# Altium integrated library SparkFun-Retired.Library.IntLib: 390 symbols (part 3 of 5)
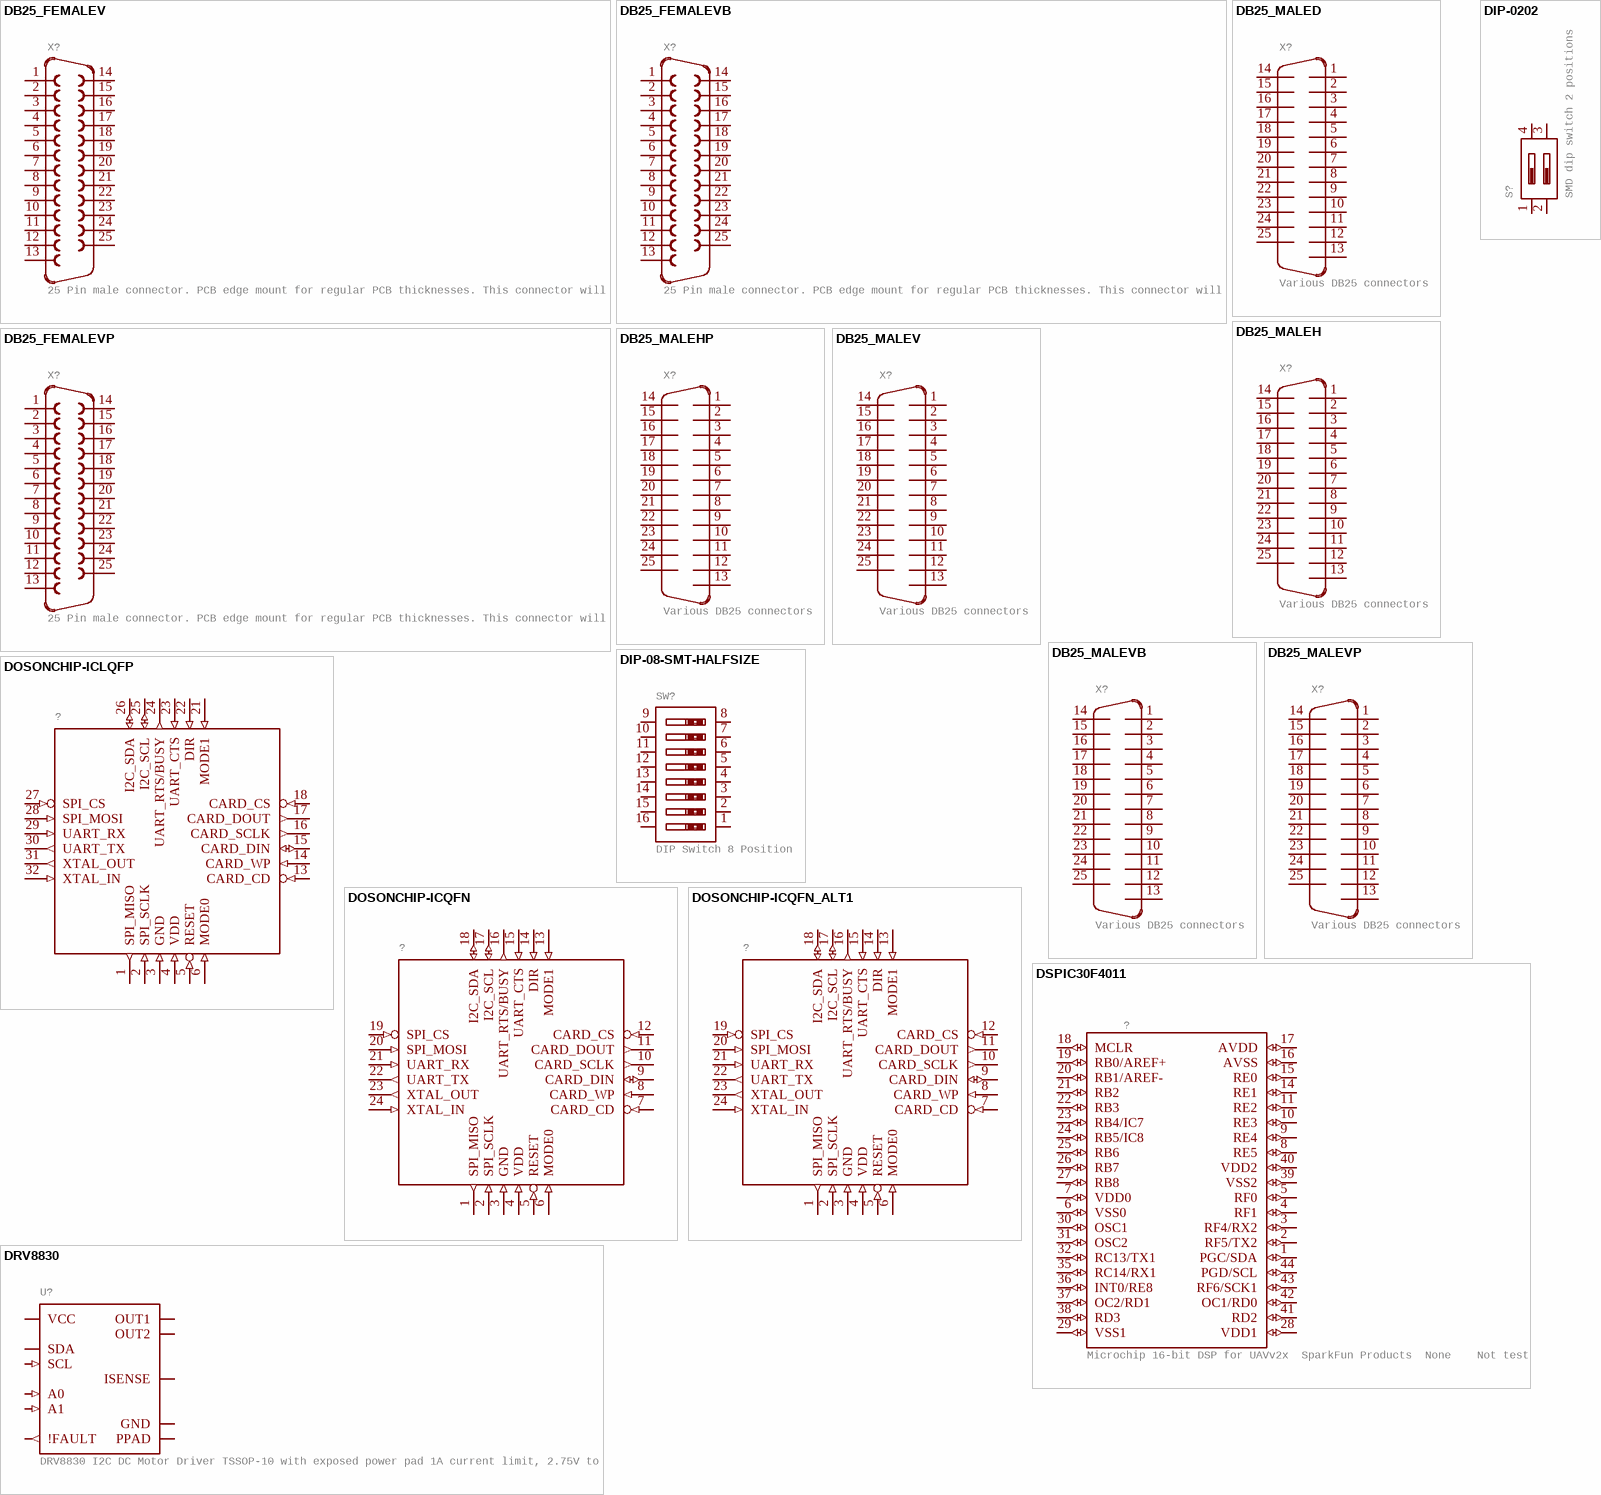
[diagram p28: symbols DB25_FEMALEV to DSPIC30F4011]

## DOSONCHIP-ICQFN_ALT1
designator ?, comment DOSonCHIP ICThis is the tested schematic and footprint for the DOSonCHIP FAT16 FAT32 IC. Spark Fun Electronics SKU : COM-07956. QFN package also tested/proven.  (value not drawn)
GateName_1: G$1; SymbolName_1: DOSONCHIP-IC; DeviceName: QFN_ALT1; LibraryName: SparkFun-Retired; DeviceSetName: DOSONCHIP-IC; Package: QFN-24_ALT1.PAC
footprint QFN-24_ALT1.PAC
pins: 1 SPI_MISO (out), 2 SPI_SCLK (in), 3 GND (in), 4 VDD (in), 5 RESET (in), 6 MODE0 (in), 7 CARD_CD (in), 8 CARD_WP (in), 9 CARD_DIN (io), 10 CARD_SCLK (out), 11 CARD_DOUT (out), 12 CARD_CS (in), 13 MODE1 (in), 14 DIR (in), 15 UART_CTS (in), 16 UART_RTS/BUSY (out), 17 I2C_SCL (io), 18 I2C_SDA (io), 19 SPI_CS (in), 20 SPI_MOSI (in), 21 UART_RX (in), 22 UART_TX (out), 23 XTAL_OUT (out), 24 XTAL_IN (in)

## DRV8830
designator U?, comment DRV8830 I2C DC Motor Driver TSSOP-10 with exposed power pad 1A current limit, 2.75V to 6.8V
GateName_1: G$1; PROD_ID: IC-11646; SymbolName_1: DRV8830; LibraryName: SparkFun-Retired; DeviceSetName: DRV8830; Package: MSOP-10-GNDPAD
footprint MSOP-10-GNDPAD
pins: 1 OUT2 (power), 2 ISENSE (io), 3 OUT1 (power), 4 VCC (power), 5 GND (power), 6 !FAULT (out), 7 A0 (in), 8 A1 (in), 9 SDA (io), 10 SCL (in), GND PPAD (power)

## DSPIC30F4011
designator ?, comment Microchip 16-bit DSP for UAVv2x  SparkFun Products  None    Not tested
GateName_1: G$1; SymbolName_1: DSPIC30F4011; LibraryName: SparkFun-Retired; DeviceSetName: DSPIC30F4011; Package: TQFP44_MCU
footprint TQFP44_MCU
pins: 1 PGC/SDA (io), 2 RF5/TX2 (io), 3 RF4/RX2 (io), 4 RF1 (io), 5 RF0 (io), 6 VSS0 (io), 7 VDD0 (io), 8 RE5 (io), 9 RE4 (io), 10 RE3 (io), 11 RE2 (io), 14 RE1 (io), 15 RE0 (io), 16 AVSS (io), 17 AVDD (io), 18 MCLR (io), 19 RB0/AREF+ (io), 20 RB1/AREF- (io), 21 RB2 (io), 22 RB3 (io), 23 RB4/IC7 (io), 24 RB5/IC8 (io), 25 RB6 (io), 26 RB7 (io), 27 RB8 (io), 28 VDD1 (io), 29 VSS1 (io), 30 OSC1 (io), 31 OSC2 (io), 32 RC13/TX1 (io), 35 RC14/RX1 (io), 36 INT0/RE8 (io), 37 OC2/RD1 (io), 38 RD3 (io), 39 VSS2 (io), 40 VDD2 (io), 41 RD2 (io), 42 OC1/RD0 (io), 43 RF6/SCK1 (io), 44 PGD/SCL (io)

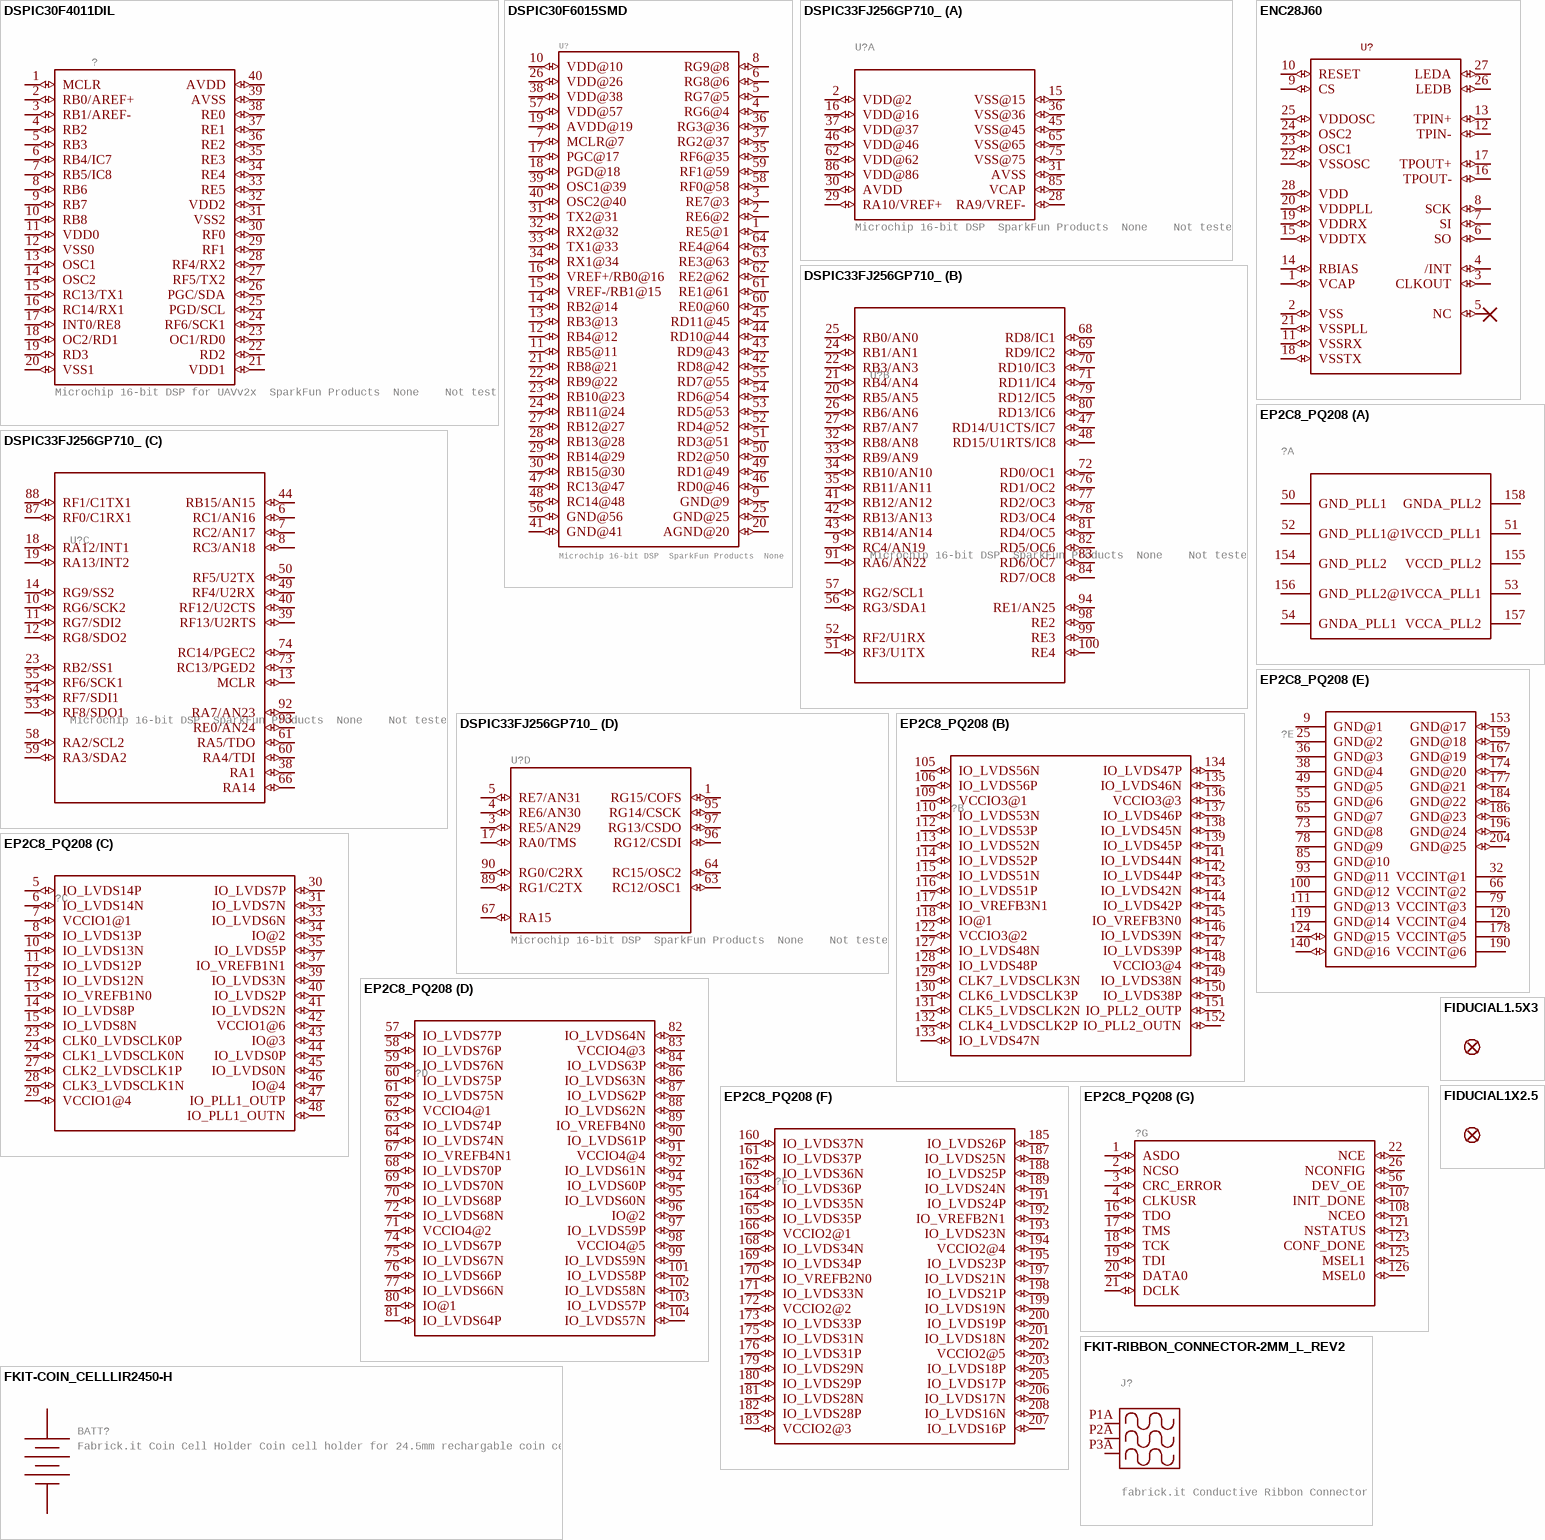
[diagram p10: symbols DSPIC30F4011DIL to FKIT-RIBBON_CONNECTOR-2MM_L_REV2]

## DSPIC30F4011DIL
designator ?, comment Microchip 16-bit DSP for UAVv2x  SparkFun Products  None    Not tested
GateName_1: G$1; SymbolName_1: DSPIC30F4011; DeviceName: DIL; LibraryName: SparkFun-Retired; DeviceSetName: DSPIC30F4011; Package: DIP40_MCU
footprint DIP40_MCU
pins: 1 MCLR (io), 2 RB0/AREF+ (io), 3 RB1/AREF- (io), 4 RB2 (io), 5 RB3 (io), 6 RB4/IC7 (io), 7 RB5/IC8 (io), 8 RB6 (io), 9 RB7 (io), 10 RB8 (io), 11 VDD0 (io), 12 VSS0 (io), 13 OSC1 (io), 14 OSC2 (io), 15 RC13/TX1 (io), 16 RC14/RX1 (io), 17 INT0/RE8 (io), 18 OC2/RD1 (io), 19 RD3 (io), 20 VSS1 (io), 21 VDD1 (io), 22 RD2 (io), 23 OC1/RD0 (io), 24 RF6/SCK1 (io), 25 PGD/SCL (io), 26 PGC/SDA (io), 27 RF5/TX2 (io), 28 RF4/RX2 (io), 29 RF1 (io), 30 RF0 (io), 31 VSS2 (io), 32 VDD2 (io), 33 RE5 (io), 34 RE4 (io), 35 RE3 (io), 36 RE2 (io), 37 RE1 (io), 38 RE0 (io), 39 AVSS (io), 40 AVDD (io)

## DSPIC30F6015SMD
designator U?, comment Microchip 16-bit DSP  SparkFun Products  None
GateName_1: G$1; SymbolName_1: DSPIC30F6015; DeviceName: SMD; LibraryName: SparkFun-Retired; DeviceSetName: DSPIC30F6015; Package: TQFP64_MCU
footprint TQFP64_MCU
pins: 1 RE5@1 (io), 2 RE6@2 (io), 3 RE7@3 (io), 4 RG6@4 (io), 5 RG7@5 (io), 6 RG8@6 (io), 7 MCLR@7 (io), 8 RG9@8 (io), 9 GND@9 (io), 10 VDD@10 (io), 11 RB5@11 (io), 12 RB4@12 (io), 13 RB3@13 (io), 14 RB2@14 (io), 15 VREF-/RB1@15 (io), 16 VREF+/RB0@16 (io), 17 PGC@17 (io), 18 PGD@18 (io), 19 AVDD@19 (io), 20 AGND@20 (io), 21 RB8@21 (io), 22 RB9@22 (io), 23 RB10@23 (io), 24 RB11@24 (io), 25 GND@25 (io), 26 VDD@26 (io), 27 RB12@27 (io), 28 RB13@28 (io), 29 RB14@29 (io), 30 RB15@30 (io), 31 TX2@31 (io), 32 RX2@32 (io), 33 TX1@33 (io), 34 RX1@34 (io), 35 RF6@35 (io), 36 RG3@36 (io), 37 RG2@37 (io), 38 VDD@38 (io), 39 OSC1@39 (io), 40 OSC2@40 (io), 41 GND@41 (io), 42 RD8@42 (io), 43 RD9@43 (io), 44 RD10@44 (io), 45 RD11@45 (io), 46 RD0@46 (io), 47 RC13@47 (io), 48 RC14@48 (io), 49 RD1@49 (io), 50 RD2@50 (io), 51 RD3@51 (io), 52 RD4@52 (io), 53 RD5@53 (io), 54 RD6@54 (io), 55 RD7@55 (io), 56 GND@56 (io), 57 VDD@57 (io), 58 RF0@58 (io), 59 RF1@59 (io), 60 RE0@60 (io), 61 RE1@61 (io), 62 RE2@62 (io), 63 RE3@63 (io), 64 RE4@64 (io)

## DSPIC33FJ256GP710_
designator U?, comment Microchip 16-bit DSP  SparkFun Products  None    Not tested
GateName_1: G1; SymbolName_1: DSPIC33FJ256GP710_POWER; GateName_2: G2; SymbolName_2: DSPIC33FJ256GP710_CONTROL; GateName_3: G3; SymbolName_3: DSPIC33FJ256GP710_EXTERNAL; GateName_4: G4; SymbolName_4: DSPIC33FJ256GP710_EXTRA; DeviceName: _; DeviceSetName: DSPIC33FJ256GP710; LibraryName: SparkFun-Retired; Package: TQFP-100-12X12MM_MCU
footprint TQFP-100-12X12MM_MCU
part A pins: 2 VDD@2 (io), 15 VSS@15 (io), 16 VDD@16 (io), 28 RA9/VREF- (io), 29 RA10/VREF+ (io), 30 AVDD (io), 31 AVSS (io), 36 VSS@36 (io), 37 VDD@37 (io), 45 VSS@45 (io), 46 VDD@46 (io), 62 VDD@62 (io), 65 VSS@65 (io), 75 VSS@75 (io), 85 VCAP (io), 86 VDD@86 (io)
part B pins: 9 RC4/AN19 (io), 20 RB5/AN5 (io), 21 RB4/AN4 (io), 22 RB3/AN3 (io), 24 RB1/AN1 (io), 25 RB0/AN0 (io), 26 RB6/AN6 (io), 27 RB7/AN7 (io), 32 RB8/AN8 (io), 33 RB9/AN9 (io), 34 RB10/AN10 (io), 35 RB11/AN11 (io), 41 RB12/AN12 (io), 42 RB13/AN13 (io), 43 RB14/AN14 (io), 47 RD14/U1CTS/IC7 (io), 48 RD15/U1RTS/IC8 (io), 51 RF3/U1TX (io), 52 RF2/U1RX (io), 56 RG3/SDA1 (io), 57 RG2/SCL1 (io), 68 RD8/IC1 (io), 69 RD9/IC2 (io), 70 RD10/IC3 (io), 71 RD11/IC4 (io), 72 RD0/OC1 (io), 76 RD1/OC2 (io), 77 RD2/OC3 (io), 78 RD3/OC4 (io), 79 RD12/IC5 (io), 80 RD13/IC6 (io), 81 RD4/OC5 (io), 82 RD5/OC6 (io), 83 RD6/OC7 (io), 84 RD7/OC8 (io), 91 RA6/AN22 (io), 94 RE1/AN25 (io), 98 RE2 (io), 99 RE3 (io), 100 RE4 (io)
part C pins: 6 RC1/AN16 (io), 7 RC2/AN17 (io), 8 RC3/AN18 (io), 10 RG6/SCK2 (io), 11 RG7/SDI2 (io), 12 RG8/SDO2 (io), 13 MCLR (io), 14 RG9/SS2 (io), 18 RA12/INT1 (io), 19 RA13/INT2 (io), 23 RB2/SS1 (io), 38 RA1 (io), 39 RF13/U2RTS (io), 40 RF12/U2CTS (io), 44 RB15/AN15 (io), 49 RF4/U2RX (io), 50 RF5/U2TX (io), 53 RF8/SDO1 (io), 54 RF7/SDI1 (io), 55 RF6/SCK1 (io), 58 RA2/SCL2 (io), 59 RA3/SDA2 (io), 60 RA4/TDI (io), 61 RA5/TDO (io), 66 RA14 (io), 73 RC13/PGED2 (io), 74 RC14/PGEC2 (io), 87 RF0/C1RX1 (io), 88 RF1/C1TX1 (io), 92 RA7/AN23 (io), 93 RE0/AN24 (io)
part D pins: 1 RG15/COFS (io), 3 RE5/AN29 (io), 4 RE6/AN30 (io), 5 RE7/AN31 (io), 17 RA0/TMS (io), 63 RC12/OSC1 (io), 64 RC15/OSC2 (io), 67 RA15 (io), 89 RG1/C2TX (io), 90 RG0/C2RX (io), 95 RG14/CSCK (io), 96 RG12/CSDI (io), 97 RG13/CSDO (io)

## ENC28J60
designator U?, comment Microchip SPI 10Base ethernet IC   Prototype by abe, 2010.  Dead?  (value not drawn)
GateName_1: G$1; SymbolName_1: ENC28J60; PROD_ID: IC-09541; LibraryName: SparkFun-Retired; DeviceSetName: ENC28J60; Package: SSOP28DB
footprint SSOP28DB
pins: 1 VCAP (io), 2 VSS (io), 3 CLKOUT (io), 4 /INT (io), 5 NC (io), 6 SO (io), 7 SI (io), 8 SCK (io), 9 CS (io), 10 RESET (io), 11 VSSRX (io), 12 TPIN- (io), 13 TPIN+ (io), 14 RBIAS (io), 15 VDDTX (io), 16 TPOUT- (io), 17 TPOUT+ (io), 18 VSSTX (io), 19 VDDRX (io), 20 VDDPLL (io), 21 VSSPLL (io), 22 VSSOSC (io), 23 OSC1 (io), 24 OSC2 (io), 25 VDDOSC (io), 26 LEDB (io), 27 LEDA (io), 28 VDD (io)

## EP2C8_PQ208
designator ?, comment Altera Cyclone2 FPGA, PQFP-208  Not in catalog  (value not drawn)
GateName_1: G$2; SymbolName_1: EP2C20_PQ208_PLL; GateName_2: G$6; SymbolName_2: EP2C20_PQ208_B3; GateName_3: G$4; SymbolName_3: EP2C20_PQ208_B1; GateName_4: G$3; SymbolName_4: EP2C20_PQ208_B4; GateName_5: G$7; SymbolName_5: EP2C20_PQ208_POWER; GateName_6: G$5; SymbolName_6: EP2C20_PQ208_B2; GateName_7: G$1; SymbolName_7: EP2C20_PQ208_CONFIG; DeviceSetName: EP2C8_PQ208; LibraryName: SparkFun-Retired; Package: PQFP208
footprint PQFP208
part A pins: 50 GND_PLL1 (power), 51 VCCD_PLL1 (power), 52 GND_PLL1@1 (power), 53 VCCA_PLL1 (power), 54 GNDA_PLL1 (power), 154 GND_PLL2 (power), 155 VCCD_PLL2 (power), 156 GND_PLL2@1 (power), 157 VCCA_PLL2 (power), 158 GNDA_PLL2 (power)
part B pins: 105 IO_LVDS56N (io), 106 IO_LVDS56P (io), 109 VCCIO3@1 (io), 110 IO_LVDS53N (io), 112 IO_LVDS53P (io), 113 IO_LVDS52N (io), 114 IO_LVDS52P (io), 115 IO_LVDS51N (io), 116 IO_LVDS51P (io), 117 IO_VREFB3N1 (io), 118 IO@1 (io), 122 VCCIO3@2 (io), 127 IO_LVDS48N (io), 128 IO_LVDS48P (io), 129 CLK7_LVDSCLK3N (io), 130 CLK6_LVDSCLK3P (io), 131 CLK5_LVDSCLK2N (io), 132 CLK4_LVDSCLK2P (io), 133 IO_LVDS47N (io), 134 IO_LVDS47P (io), 135 IO_LVDS46N (io), 136 VCCIO3@3 (io), 137 IO_LVDS46P (io), 138 IO_LVDS45N (io), 139 IO_LVDS45P (io), 141 IO_LVDS44N (io), 142 IO_LVDS44P (io), 143 IO_LVDS42N (io), 144 IO_LVDS42P (io), 145 IO_VREFB3N0 (io), 146 IO_LVDS39N (io), 147 IO_LVDS39P (io), 148 VCCIO3@4 (io), 149 IO_LVDS38N (io), 150 IO_LVDS38P (io), 151 IO_PLL2_OUTP (io), 152 IO_PLL2_OUTN (io)
part C pins: 5 IO_LVDS14P (io), 6 IO_LVDS14N (io), 7 VCCIO1@1 (io), 8 IO_LVDS13P (io), 10 IO_LVDS13N (io), 11 IO_LVDS12P (io), 12 IO_LVDS12N (io), 13 IO_VREFB1N0 (io), 14 IO_LVDS8P (io), 15 IO_LVDS8N (io), 23 CLK0_LVDSCLK0P (io), 24 CLK1_LVDSCLK0N (io), 27 CLK2_LVDSCLK1P (io), 28 CLK3_LVDSCLK1N (io), 29 VCCIO1@4 (io), 30 IO_LVDS7P (io), 31 IO_LVDS7N (io), 33 IO_LVDS6N (io), 34 IO@2 (io), 35 IO_LVDS5P (io), 37 IO_VREFB1N1 (io), 39 IO_LVDS3N (io), 40 IO_LVDS2P (io), 41 IO_LVDS2N (io), 42 VCCIO1@6 (io), 43 IO@3 (io), 44 IO_LVDS0P (io), 45 IO_LVDS0N (io), 46 IO@4 (io), 47 IO_PLL1_OUTP (io), 48 IO_PLL1_OUTN (io)
part D pins: 57 IO_LVDS77P (io), 58 IO_LVDS76P (io), 59 IO_LVDS76N (io), 60 IO_LVDS75P (io), 61 IO_LVDS75N (io), 62 VCCIO4@1 (io), 63 IO_LVDS74P (io), 64 IO_LVDS74N (io), 67 IO_VREFB4N1 (io), 68 IO_LVDS70P (io), 69 IO_LVDS70N (io), 70 IO_LVDS68P (io), 71 VCCIO4@2 (io), 72 IO_LVDS68N (io), 74 IO_LVDS67P (io), 75 IO_LVDS67N (io), 76 IO_LVDS66P (io), 77 IO_LVDS66N (io), 80 IO@1 (io), 81 IO_LVDS64P (io), 82 IO_LVDS64N (io), 83 VCCIO4@3 (io), 84 IO_LVDS63P (io), 86 IO_LVDS63N (io), 87 IO_LVDS62P (io), 88 IO_LVDS62N (io), 89 IO_VREFB4N0 (io), 90 IO_LVDS61P (io), 91 VCCIO4@4 (io), 92 IO_LVDS61N (io), 94 IO_LVDS60P (io), 95 IO_LVDS60N (io), 96 IO@2 (io), 97 IO_LVDS59P (io), 98 VCCIO4@5 (io), 99 IO_LVDS59N (io), 101 IO_LVDS58P (io), 102 IO_LVDS58N (io), 103 IO_LVDS57P (io), 104 IO_LVDS57N (io)
part E pins: 9 GND@1 (power), 25 GND@2 (power), 32 VCCINT@1 (power), 36 GND@3 (power), 38 GND@4 (power), 49 GND@5 (power), 55 GND@6 (power), 65 GND@7 (power), 66 VCCINT@2 (power), 73 GND@8 (power), 78 GND@9 (power), 79 VCCINT@3 (power), 85 GND@10 (power), 93 GND@11 (power), 100 GND@12 (power), 111 GND@13 (power), 119 GND@14 (power), 120 VCCINT@4 (power), 124 GND@15 (io), 140 GND@16 (io), 153 GND@17 (io), 159 GND@18 (io), 167 GND@19 (io), 174 GND@20 (io), 177 GND@21 (io), 178 VCCINT@5 (power), 184 GND@22 (io), 186 GND@23 (io), 190 VCCINT@6 (power), 196 GND@24 (io), 204 GND@25 (io)
part F pins: 160 IO_LVDS37N (io), 161 IO_LVDS37P (io), 162 IO_LVDS36N (io), 163 IO_LVDS36P (io), 164 IO_LVDS35N (io), 165 IO_LVDS35P (io), 166 VCCIO2@1 (io), 168 IO_LVDS34N (io), 169 IO_LVDS34P (io), 170 IO_VREFB2N0 (io), 171 IO_LVDS33N (io), 172 VCCIO2@2 (io), 173 IO_LVDS33P (io), 175 IO_LVDS31N (io), 176 IO_LVDS31P (io), 179 IO_LVDS29N (io), 180 IO_LVDS29P (io), 181 IO_LVDS28N (io), 182 IO_LVDS28P (io), 183 VCCIO2@3 (io), 185 IO_LVDS26P (io), 187 IO_LVDS25N (io), 188 IO_LVDS25P (io), 189 IO_LVDS24N (io), 191 IO_LVDS24P (io), 192 IO_VREFB2N1 (io), 193 IO_LVDS23N (io), 194 VCCIO2@4 (io), 195 IO_LVDS23P (io), 197 IO_LVDS21N (io), 198 IO_LVDS21P (io), 199 IO_LVDS19N (io), 200 IO_LVDS19P (io), 201 IO_LVDS18N (io), 202 VCCIO2@5 (io), 203 IO_LVDS18P (io), 205 IO_LVDS17P (io), 206 IO_LVDS17N (io), 207 IO_LVDS16P (io), 208 IO_LVDS16N (io)
part G pins: 1 ASDO (io), 2 NCSO (io), 3 CRC_ERROR (io), 4 CLKUSR (io), 16 TDO (io), 17 TMS (io), 18 TCK (io), 19 TDI (io), 20 DATA0 (io), 21 DCLK (io), 22 NCE (io), 26 NCONFIG (io), 56 DEV_OE (io), 107 INIT_DONE (io), 108 NCEO (io), 121 NSTATUS (io), 123 CONF_DONE (io), 125 MSEL1 (io), 126 MSEL0 (io)

## FIDUCIAL1.5X3
designator FID?, comment Fiducial Alignment PointsVarious fiducial points for machine vision alignment.  (value not drawn)
GateName_1: G$1; DeviceName: 1.5X3; SymbolName_1: FIDUCIAL; LibraryName: SparkFun-Retired; DeviceSetName: FIDUCIAL; Package: FIDUCIAL-1.5X3
footprint FIDUCIAL-1.5X3

## FIDUCIAL1X2.5
designator FID?, comment Fiducial Alignment PointsVarious fiducial points for machine vision alignment.  (value not drawn)
GateName_1: G$1; DeviceName: 1X2.5; SymbolName_1: FIDUCIAL; LibraryName: SparkFun-Retired; DeviceSetName: FIDUCIAL; Package: FIDUCIAL-1X2.5
footprint FIDUCIAL-1X2.5

## FKIT-COIN_CELLLIR2450-H
designator BATT?, comment Fabrick.it Coin Cell Holder Coin cell holder for 24.5mm rechargable coin cell
GateName_1: G$1; SymbolName_1: FKIT-BATTERY; DeviceName: LIR2450-H; DeviceSetName: FKIT-COIN_CELL; LibraryName: SparkFun-Retired; Package: FKIT-LIR2450-H
footprint FKIT-LIR2450-H
pins: NEG (io), POS (io)

## FKIT-LOGO-MEDIUM
designator LOGO?, comment Fabrick.it Logos  (value not drawn)
GateName_1: G$1; SymbolName_1: FKIT-LOGO; DeviceName: -MEDIUM; LibraryName: SparkFun-Retired; DeviceSetName: FKIT-LOGO; Package: FKIT-LOGO_MEDIUM
footprint FKIT-LOGO_MEDIUM

## FKIT-LOGO-SMALL
designator LOGO?, comment Fabrick.it Logos  (value not drawn)
GateName_1: G$1; SymbolName_1: FKIT-LOGO; DeviceName: -SMALL; LibraryName: SparkFun-Retired; DeviceSetName: FKIT-LOGO; Package: FKIT-LOGO_SMALL
footprint FKIT-LOGO_SMALL

## FKIT-LOGO-VERY_SMALL
designator LOGO?, comment Fabrick.it Logos  (value not drawn)
GateName_1: G$1; SymbolName_1: FKIT-LOGO; DeviceName: -VERY_SMALL; LibraryName: SparkFun-Retired; DeviceSetName: FKIT-LOGO; Package: FKIT-LOGO_VERY_SMALL
footprint FKIT-LOGO_VERY_SMALL

## FKIT-LOGO-VERY_SMALL_VECTOR
designator LOGO?, comment Fabrick.it Logos  (value not drawn)
GateName_1: G$1; SymbolName_1: FKIT-LOGO; DeviceName: -VERY_SMALL_VECTOR; LibraryName: SparkFun-Retired; DeviceSetName: FKIT-LOGO; Package: FKIT-LOGO_VERY_SMALL
footprint FKIT-LOGO_VERY_SMALL

## FKIT-LOGOTYPE-MEDIUM
designator LOGO?, comment Fabrick.it Logotype  (value not drawn)
GateName_1: G$1; SymbolName_1: FKIT-LOGOTYPE; DeviceName: -MEDIUM; LibraryName: SparkFun-Retired; DeviceSetName: FKIT-LOGOTYPE; Package: FKIT-LOGOTYPE_MEDIUM
footprint FKIT-LOGOTYPE_MEDIUM

## FKIT-LOGOTYPE-SMALL
designator LOGO?, comment Fabrick.it Logotype  (value not drawn)
GateName_1: G$1; SymbolName_1: FKIT-LOGOTYPE; DeviceName: -SMALL; LibraryName: SparkFun-Retired; DeviceSetName: FKIT-LOGOTYPE; Package: FKIT-LOGOTYPE_SMALL
footprint FKIT-LOGOTYPE_SMALL

## FKIT-LOGOTYPE-VERY_SMALL
designator LOGO?, comment Fabrick.it Logotype  (value not drawn)
GateName_1: G$1; SymbolName_1: FKIT-LOGOTYPE; DeviceName: -VERY_SMALL; LibraryName: SparkFun-Retired; DeviceSetName: FKIT-LOGOTYPE; Package: FKIT-LOGOTYPE_VERY_SMALL
footprint FKIT-LOGOTYPE_VERY_SMALL

## FKIT-RIBBON_CONNECTOR-2MM_L_REV2
designator J?, comment fabrick.it Conductive Ribbon Connector
GateName_1: G$1; SymbolName_1: FKIT-CONNECTOR_COND_03; DeviceName: -2MM_L_REV2; DeviceSetName: FKIT-RIBBON_CONNECTOR; LibraryName: SparkFun-Retired; Package: FKIT-RIBBON_CONNECTOR_03_2MM_L
footprint FKIT-RIBBON_CONNECTOR_03_2MM_L
pins: P1A P$1 (io), P2A P$2 (io), P3A P$3 (io)

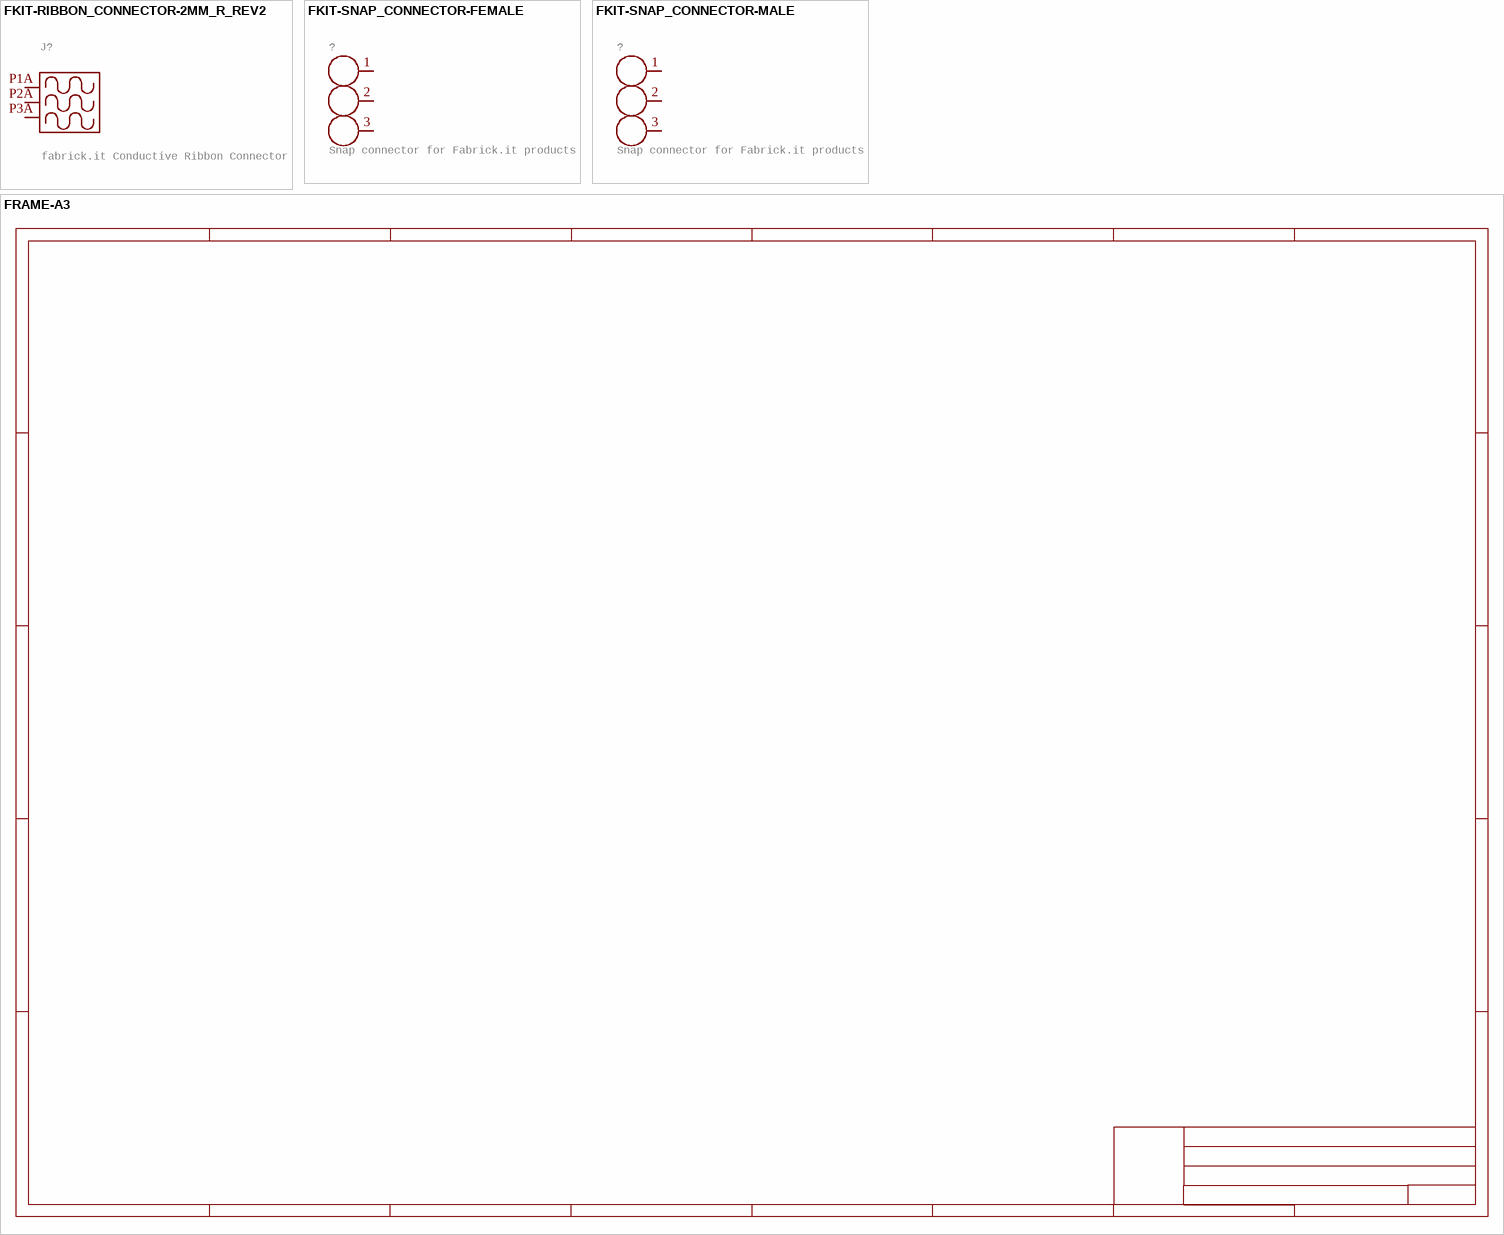
[diagram p11: symbols FKIT-RIBBON_CONNECTOR-2MM_R_REV2 to FRAME-A3]

## FKIT-RIBBON_CONNECTOR-2MM_R_REV2
designator J?, comment fabrick.it Conductive Ribbon Connector
GateName_1: G$1; SymbolName_1: FKIT-CONNECTOR_COND_03; DeviceName: -2MM_R_REV2; DeviceSetName: FKIT-RIBBON_CONNECTOR; LibraryName: SparkFun-Retired; Package: FKIT-RIBBON_CONNECTOR_03_2MM_R
footprint FKIT-RIBBON_CONNECTOR_03_2MM_R
pins: P1A P$1 (io), P2A P$2 (io), P3A P$3 (io)

## FKIT-SNAP_CONNECTOR-FEMALE
designator ?, comment Snap connector for Fabrick.it products
GateName_1: G$1; SymbolName_1: FKIT-SNAP_CONNECTOR; DeviceName: -FEMALE; LibraryName: SparkFun-Retired; DeviceSetName: FKIT-SNAP_CONNECTOR; Package: FKIT-SNAP_FEMALE
footprint FKIT-SNAP_FEMALE
pins: 1 (io), 2 (io), 3 (io)

## FKIT-SNAP_CONNECTOR-MALE
designator ?, comment Snap connector for Fabrick.it products
GateName_1: G$1; SymbolName_1: FKIT-SNAP_CONNECTOR; DeviceName: -MALE; LibraryName: SparkFun-Retired; DeviceSetName: FKIT-SNAP_CONNECTOR; Package: FKIT-SNAP_MALE
footprint FKIT-SNAP_MALE
pins: 1 (io), 2 (io), 3 (io)

## FRAME-A3
designator FRAME?, comment Schematic Frame   A3 Larger Frame-RETIRED Please use FRAME-LEDGER/FRAME-LETTER for schematics now.  (value not drawn)
GateName_1: G$1; SymbolName_1: A3L-LOC; DeviceSetName: FRAME-A3; LibraryName: SparkFun-Retired

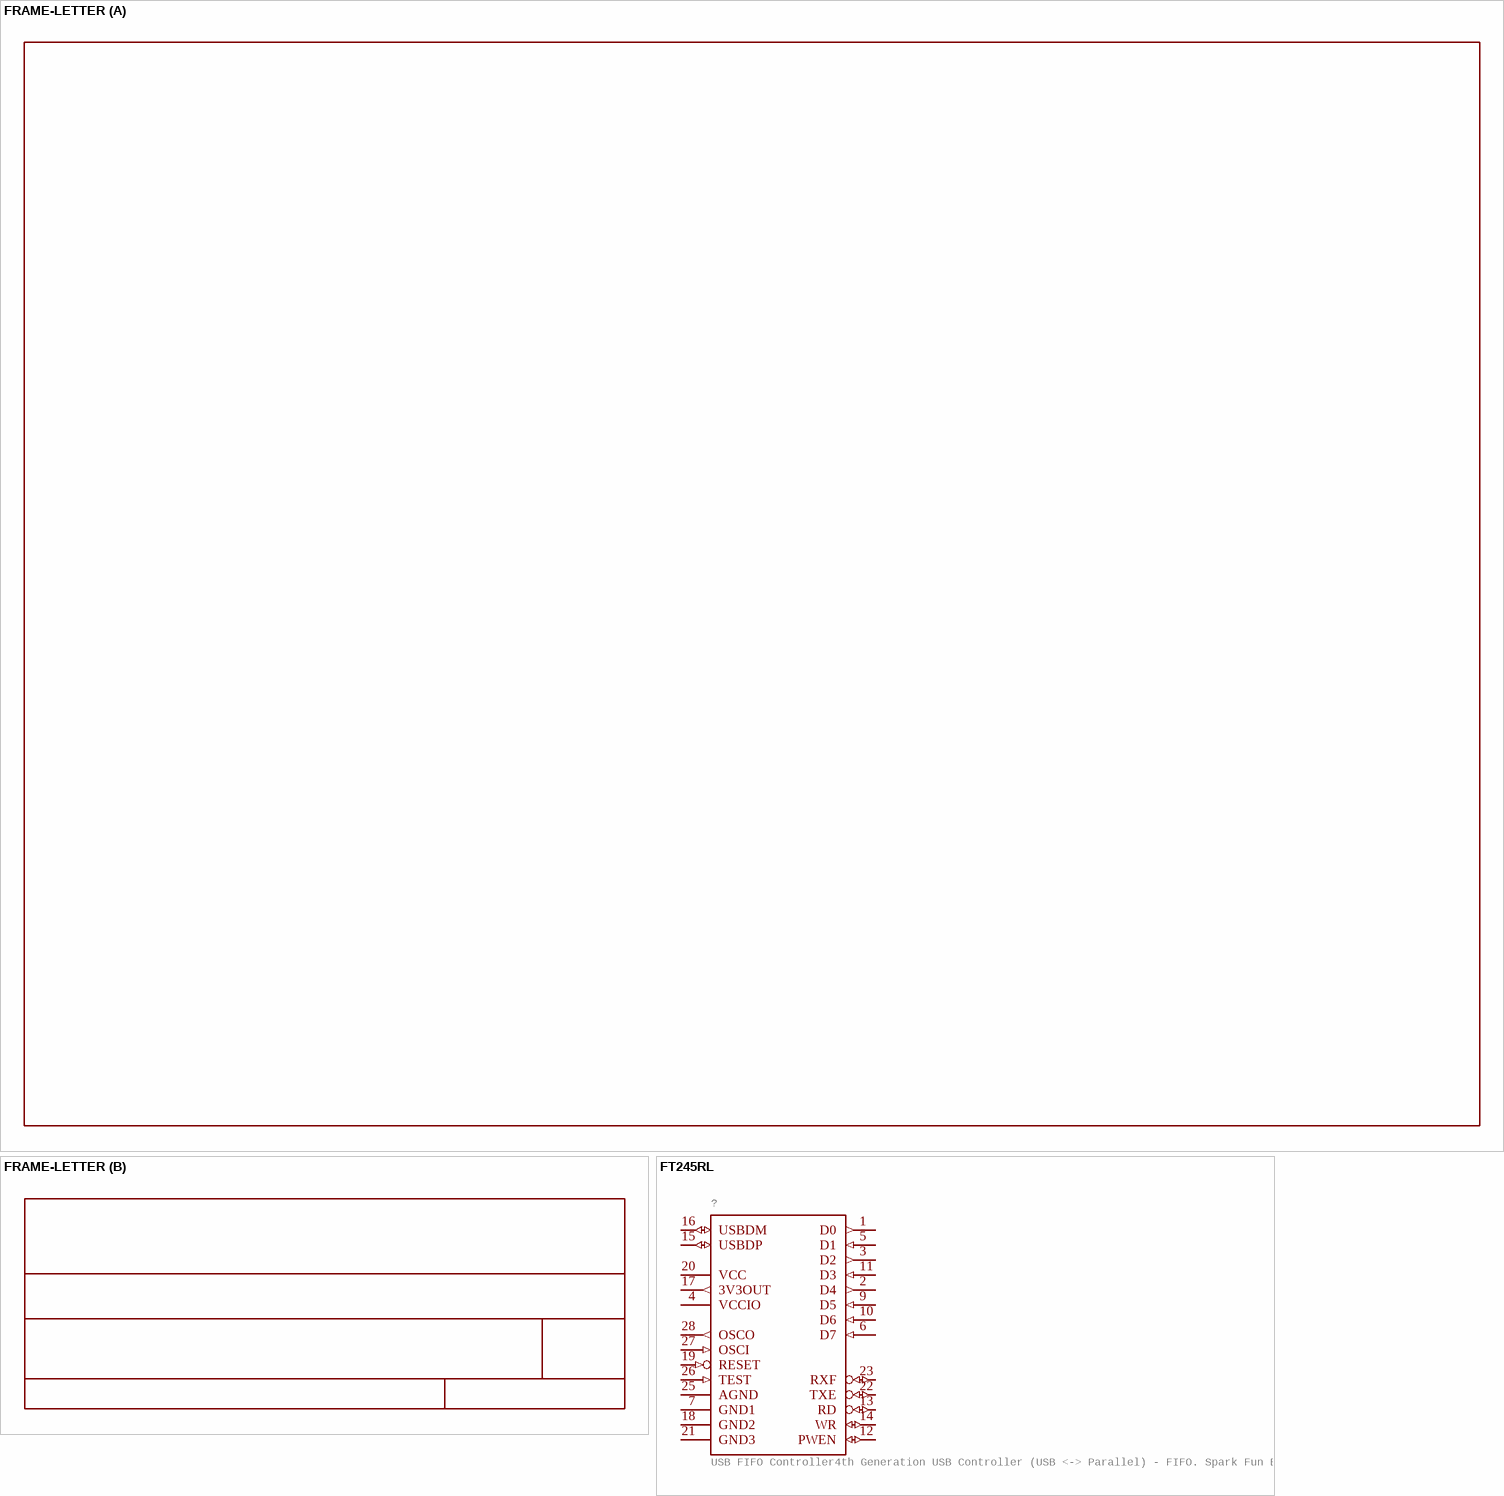
[diagram p12: symbols FRAME-LETTER to FT245RL]

## FRAME-LETTER
designator FRAME?, comment Schematic Frame   Standard 8.5x11 US Letter frame  (value not drawn)
GateName_1: G$1; SymbolName_1: LETTER_L; GateName_2: G$2; SymbolName_2: DOCFIELD; DeviceSetName: FRAME-LETTER; LibraryName: SparkFun-Retired; Package: CREATIVE_COMMONS
footprint CREATIVE_COMMONS

## FT245RL
designator ?, comment USB FIFO Controller4th Generation USB Controller (USB <-> Parallel) - FIFO. Spark Fun Electronics SKU : COM-00787   TODO: Move this to retired
GateName_1: G$1; SymbolName_1: FT245R; DeviceSetName: FT245RL; LibraryName: SparkFun-Retired; Package: SSOP28DB; PROD_ID: COM-00787
footprint SSOP28DB
pins: 1 D0 (out), 2 D4 (out), 3 D2 (out), 4 VCCIO (power), 5 D1 (in), 6 D7 (in), 7 GND1 (power), 9 D5 (in), 10 D6 (in), 11 D3 (in), 12 PWEN (io), 13 RD (io), 14 WR (io), 15 USBDP (io), 16 USBDM (io), 17 3V3OUT (out), 18 GND2 (power), 19 RESET (in), 20 VCC (power), 21 GND3 (power), 22 TXE (io), 23 RXF (io), 25 AGND (power), 26 TEST (in), 27 OSCI (in), 28 OSCO (out)

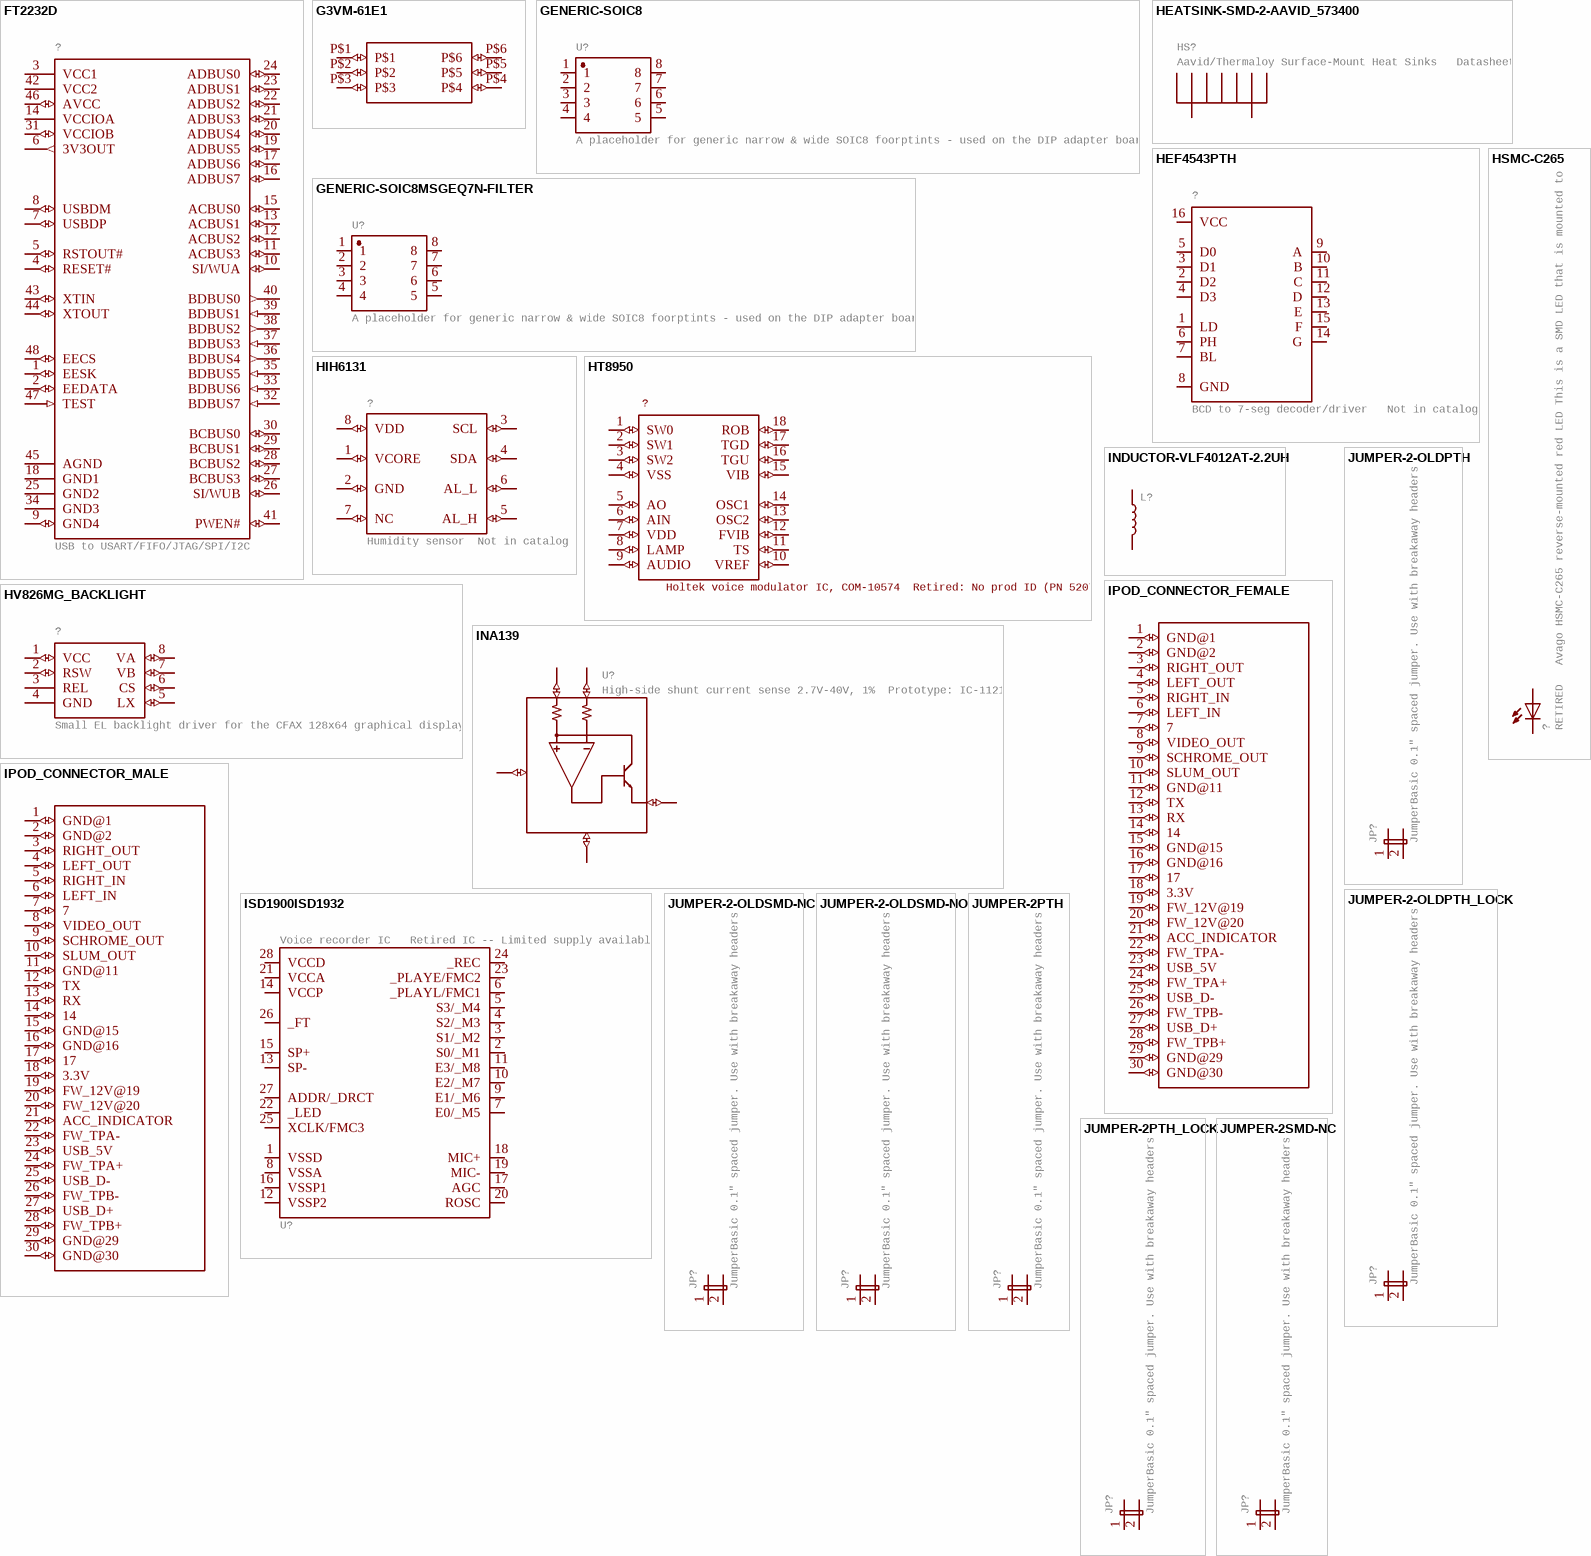
[diagram p13: symbols FT2232D to JUMPER-2SMD-NC]

## FT2232D
designator ?, comment USB to USART/FIFO/JTAG/SPI/I2C
GateName_1: G$1; SymbolName_1: FT2232D; LibraryName: SparkFun-Retired; DeviceSetName: FT2232D; Package: LQFP-48
footprint LQFP-48
pins: 1 EESK (io), 2 EEDATA (io), 3 VCC1 (power), 4 RESET# (io), 5 RSTOUT# (io), 6 3V3OUT (out), 7 USBDP (io), 8 USBDM (io), 9 GND4 (io), 10 SI/WUA (io), 11 ACBUS3 (io), 12 ACBUS2 (io), 13 ACBUS1 (io), 14 VCCIOA (power), 15 ACBUS0 (io), 16 ADBUS7 (io), 17 ADBUS6 (io), 18 GND1 (power), 19 ADBUS5 (io), 20 ADBUS4 (io), 21 ADBUS3 (io), 22 ADBUS2 (io), 23 ADBUS1 (io), 24 ADBUS0 (io), 25 GND2 (power), 26 SI/WUB (io), 27 BCBUS3 (io), 28 BCBUS2 (io), 29 BCBUS1 (io), 30 BCBUS0 (io), 31 VCCIOB (io), 32 BDBUS7 (in), 33 BDBUS6 (in), 34 GND3 (power), 35 BDBUS5 (in), 36 BDBUS4 (out), 37 BDBUS3 (in), 38 BDBUS2 (out), 39 BDBUS1 (in), 40 BDBUS0 (out), 41 PWEN# (io), 42 VCC2 (power), 43 XTIN (io), 44 XTOUT (io), 45 AGND (power), 46 AVCC (io), 47 TEST (in), 48 EECS (io)

## G3VM-61E1
designator ?, comment Omron NO solid state relay  (value not drawn)
GateName_1: G$1; SymbolName_1: G3VM-61E1; PROD_ID: TRANS-08720; LibraryName: SparkFun-Retired; DeviceSetName: G3VM-61E1; Package: G3VM-61E1
footprint G3VM-61E1
pins: P$1 (io), P$2 (io), P$3 (io), P$4 (io), P$5 (io), P$6 (io)

## GENERIC-SOIC8
designator U?, comment A placeholder for generic narrow & wide SOIC8 foorptints - used on the DIP adapter board.  Has strange reference to IC-10141, a Seven Band Graphic Equalizer Display Filter SOIC-8 VFP: IC-10141
GateName_1: G$1; SymbolName_1: GENERIC-8PIN; DeviceSetName: GENERIC-SOIC8; LibraryName: SparkFun-Retired; Package: SO08-UNIVERSAL
footprint SO08-UNIVERSAL
pins: 1 (io), 2 (io), 3 (io), 4 (io), 5 (io), 6 (io), 7 (io), 8 (io)

## GENERIC-SOIC8MSGEQ7N-FILTER
designator U?, comment A placeholder for generic narrow & wide SOIC8 foorptints - used on the DIP adapter board.  Has strange reference to IC-10141, a Seven Band Graphic Equalizer Display Filter SOIC-8 VFP: IC-10141
GateName_1: G$1; SymbolName_1: GENERIC-8PIN; DeviceName: MSGEQ7N-FILTER; DeviceSetName: GENERIC-SOIC8; LibraryName: SparkFun-Retired; Package: SO08; PROD_ID: IC-10141
footprint SO08
pins: 1 (io), 2 (io), 3 (io), 4 (io), 5 (io), 6 (io), 7 (io), 8 (io)

## HEATSINK-SMD-2-AAVID_573400
designator HS?, comment Aavid/Thermaloy Surface-Mount Heat Sinks   Datasheet
GateName_1: G$1; SymbolName_1: HEATSINK-SMD-2; DeviceName: -AAVID_573400; PROD_ID: COMP-12096; LibraryName: SparkFun-Retired; DeviceSetName: HEATSINK-SMD-2; Package: AAVID_573400
footprint AAVID_573400
pins: P$1 (io), P$2 (io)

## HEF4543PTH
designator ?, comment BCD to 7-seg decoder/driver   Not in catalog
GateName_1: G$1; SymbolName_1: HEF4543; DeviceName: PTH; LibraryName: SparkFun-Retired; DeviceSetName: HEF4543; Package: DIP16
footprint DIP16
pins: 1 LD (io), 2 D2 (io), 3 D1 (io), 4 D3 (io), 5 D0 (io), 6 PH (io), 7 BL (io), 8 GND (io), 9 A (io), 10 B (io), 11 C (io), 12 D (io), 13 E (io), 14 G (io), 15 F (io), 16 VCC (io)

## HIH6131
designator ?, comment Humidity sensor  Not in catalog
GateName_1: G$1; SymbolName_1: HIH6131; LibraryName: SparkFun-Retired; DeviceSetName: HIH6131; Package: SOIC8
footprint SOIC8
pins: 1 VCORE (io), 2 GND (io), 3 SCL (io), 4 SDA (io), 5 AL_H (io), 6 AL_L (io), 7 NC (io), 8 VDD (io)

## HSMC-C265
designator ?, comment RETIRED   Avago HSMC-C265 reverse-mounted red LED This is a SMD LED that is mounted to one side of a PCB and shines through a hole to the other side of the PCB. Useful for making boards with no components on one side for mounting and having LED indicator lights shine through the board, panel, etc.
GateName_1: G$1; SymbolName_1: LED; LibraryName: SparkFun-Retired; DeviceSetName: HSMC-C265; Package: HSMC-C265
footprint HSMC-C265
pins: A, C

## HT8950
designator ?, comment Holtek voice modulator IC, COM-10574  Retired: No prod ID (PN 5207)
GateName_1: G$1; SymbolName_1: HT8950; LibraryName: SparkFun-Retired; DeviceSetName: HT8950; Package: DIL18
footprint DIL18
pins: 1 SW0 (io), 2 SW1 (io), 3 SW2 (io), 4 VSS (io), 5 AO (io), 6 AIN (io), 7 VDD (io), 8 LAMP (io), 9 AUDIO (io), 10 VREF (io), 11 TS (io), 12 FVIB (io), 13 OSC2 (io), 14 OSC1 (io), 15 VIB (io), 16 TGU (io), 17 TGD (io), 18 ROB (io)

## HV826MG_BACKLIGHT
designator ?, comment Small EL backlight driver for the CFAX 128x64 graphical display.
GateName_1: G$1; SymbolName_1: HV826MG_BACKLIGHT; LibraryName: SparkFun-Retired; DeviceSetName: HV826MG_BACKLIGHT; Package: MSOP8
footprint MSOP8
pins: 1 VCC (io), 2 RSW (io), 3 REL (power), 4 GND (power), 5 LX (io), 6 CS (io), 7 VB (io), 8 VA (io)

## INA139
designator U?, comment High-side shunt current sense 2.7V-40V, 1%  Prototype: IC-11211
GateName_1: G$1; SymbolName_1: INA139; LibraryName: SparkFun-Retired; DeviceSetName: INA139; Package: SOT23-5
footprint SOT23-5
pins: 1 OUT (io), 2 GND (io), 3 VIN+ (io), 4 VIN- (io), 5 V+ (io)

## INDUCTOR-VLF4012AT-2.2UH
designator L?
GateName_1: G$1; SymbolName_1: INDUCTOR; DeviceName: -VLF4012AT-2.2UH; PROD_ID: NDUC-09513; LibraryName: SparkFun-Retired; DeviceSetName: INDUCTOR; Package: INDUCTOR_2.2UH
footprint INDUCTOR_2.2UH
pins: P$1 1, P$2 2

## IPOD_CONNECTOR_FEMALE
designator ?, comment iPod Female ConnectorThis is the connector found inside current iPods. Use this connector to attach to iPod accessories like Nike+iPods, etc. Schematic and footprint are not yet production proven. Spark Fun Electronics SKU : DEV-08035  (value not drawn)
GateName_1: G$1; SymbolName_1: IPOD_CONNECTOR_FEMALE; LibraryName: SparkFun-Retired; DeviceSetName: IPOD_CONNECTOR_FEMALE; Package: IPOD_FEMALE_CONNECTOR
footprint IPOD_FEMALE_CONNECTOR
pins: 1 GND@1 (io), 2 GND@2 (io), 3 RIGHT_OUT (io), 4 LEFT_OUT (io), 5 RIGHT_IN (io), 6 LEFT_IN (io), 7 (io), 8 VIDEO_OUT (io), 9 SCHROME_OUT (io), 10 SLUM_OUT (io), 11 GND@11 (io), 12 TX (io), 13 RX (io), 14 (io), 15 GND@15 (io), 16 GND@16 (io), 17 (io), 18 3.3V (io), 19 FW_12V@19 (io), 20 FW_12V@20 (io), 21 ACC_INDICATOR (io), 22 FW_TPA- (io), 23 USB_5V (io), 24 FW_TPA+ (io), 25 USB_D- (io), 26 FW_TPB- (io), 27 USB_D+ (io), 28 FW_TPB+ (io), 29 GND@29 (io), 30 GND@30 (io)

## IPOD_CONNECTOR_MALE
designator ?, comment iPod Male ConnectorThis is the connector that will insert into an iPods. Use this connector to gain access to the various iPod pins. Schematic and footprint are not yet production proven. The PCB thickness must be more thin than the standard 0.062" FR4. Spark Fun Electronics SKU : DEV-00633  (value not drawn)
GateName_1: G$1; SymbolName_1: IPOD_CONNECTOR_FEMALE; DeviceSetName: IPOD_CONNECTOR_MALE; LibraryName: SparkFun-Retired; Package: IPOD_MALE_CONNECTOR
footprint IPOD_MALE_CONNECTOR
pins: 1 GND@1 (io), 2 GND@2 (io), 3 RIGHT_OUT (io), 4 LEFT_OUT (io), 5 RIGHT_IN (io), 6 LEFT_IN (io), 7 (io), 8 VIDEO_OUT (io), 9 SCHROME_OUT (io), 10 SLUM_OUT (io), 11 GND@11 (io), 12 TX (io), 13 RX (io), 14 (io), 15 GND@15 (io), 16 GND@16 (io), 17 (io), 18 3.3V (io), 19 FW_12V@19 (io), 20 FW_12V@20 (io), 21 ACC_INDICATOR (io), 22 FW_TPA- (io), 23 USB_5V (io), 24 FW_TPA+ (io), 25 USB_D- (io), 26 FW_TPB- (io), 27 USB_D+ (io), 28 FW_TPB+ (io), 29 GND@29 (io), 30 GND@30 (io)

## ISD1900ISD1932
designator U?, comment Voice recorder IC   Retired IC -- Limited supply available
GateName_1: G$1; SymbolName_1: ISD1932; DeviceSetName: ISD1900; DeviceName: ISD1932; LibraryName: SparkFun-Retired; Package: SO-28W
footprint SO-28W
pins: 1 VSSD (io), 2 S0/_M1 (io), 3 S1/_M2 (io), 4 S2/_M3 (io), 5 S3/_M4 (io), 6 _PLAYL/FMC1 (io), 7 E0/_M5 (io), 8 VSSA (io), 9 E1/_M6 (io), 10 E2/_M7 (io), 11 E3/_M8 (io), 12 VSSP2 (io), 13 SP- (io), 14 VCCP (io), 15 SP+ (io), 16 VSSP1 (io), 17 AGC (io), 18 MIC+ (io), 19 MIC- (io), 20 ROSC (io), 21 VCCA (io), 22 _LED (io), 23 _PLAYE/FMC2 (io), 24 _REC (io), 25 XCLK/FMC3 (io), 26 _FT (io), 27 ADDR/_DRCT (io), 28 VCCD (io)

## JUMPER-2-OLDPTH
designator JP?, comment JumperBasic 0.1" spaced jumper. Use with breakaway headers.
GateName_1: A; SymbolName_1: JUMPER-2; DeviceName: PTH; DeviceSetName: JUMPER-2-OLD; LibraryName: SparkFun-Retired; Package: 1X02
footprint 1X02
pins: 1, 2

## JUMPER-2-OLDPTH_LOCK
designator JP?, comment JumperBasic 0.1" spaced jumper. Use with breakaway headers.
GateName_1: A; SymbolName_1: JUMPER-2; DeviceName: PTH_LOCK; DeviceSetName: JUMPER-2-OLD; LibraryName: SparkFun-Retired; Package: 1X02_LOCK
footprint 1X02_LOCK
pins: 1, 2

## JUMPER-2-OLDSMD-NC
designator JP?, comment JumperBasic 0.1" spaced jumper. Use with breakaway headers.
GateName_1: A; SymbolName_1: JUMPER-2; DeviceName: SMD-NC; DeviceSetName: JUMPER-2-OLD; LibraryName: SparkFun-Retired; Package: SJ_2S
footprint SJ_2S
pins: 1, 2

## JUMPER-2-OLDSMD-NO
designator JP?, comment JumperBasic 0.1" spaced jumper. Use with breakaway headers.
GateName_1: A; SymbolName_1: JUMPER-2; DeviceName: SMD-NO; DeviceSetName: JUMPER-2-OLD; LibraryName: SparkFun-Retired; Package: SJ_2S-NO
footprint SJ_2S-NO
pins: 1, 2

## JUMPER-2PTH
designator JP?, comment JumperBasic 0.1" spaced jumper. Use with breakaway headers.
GateName_1: A; SymbolName_1: JUMPER-2; DeviceName: PTH; LibraryName: SparkFun-Retired; DeviceSetName: JUMPER-2; Package: 1X02
footprint 1X02
pins: 1, 2

## JUMPER-2PTH_LOCK
designator JP?, comment JumperBasic 0.1" spaced jumper. Use with breakaway headers.
GateName_1: A; SymbolName_1: JUMPER-2; DeviceName: PTH_LOCK; LibraryName: SparkFun-Retired; DeviceSetName: JUMPER-2; Package: 1X02_LOCK
footprint 1X02_LOCK
pins: 1, 2

## JUMPER-2SMD-NC
designator JP?, comment JumperBasic 0.1" spaced jumper. Use with breakaway headers.
GateName_1: A; SymbolName_1: JUMPER-2; DeviceName: SMD-NC; LibraryName: SparkFun-Retired; DeviceSetName: JUMPER-2; Package: SJ_2S
footprint SJ_2S
pins: 1, 2

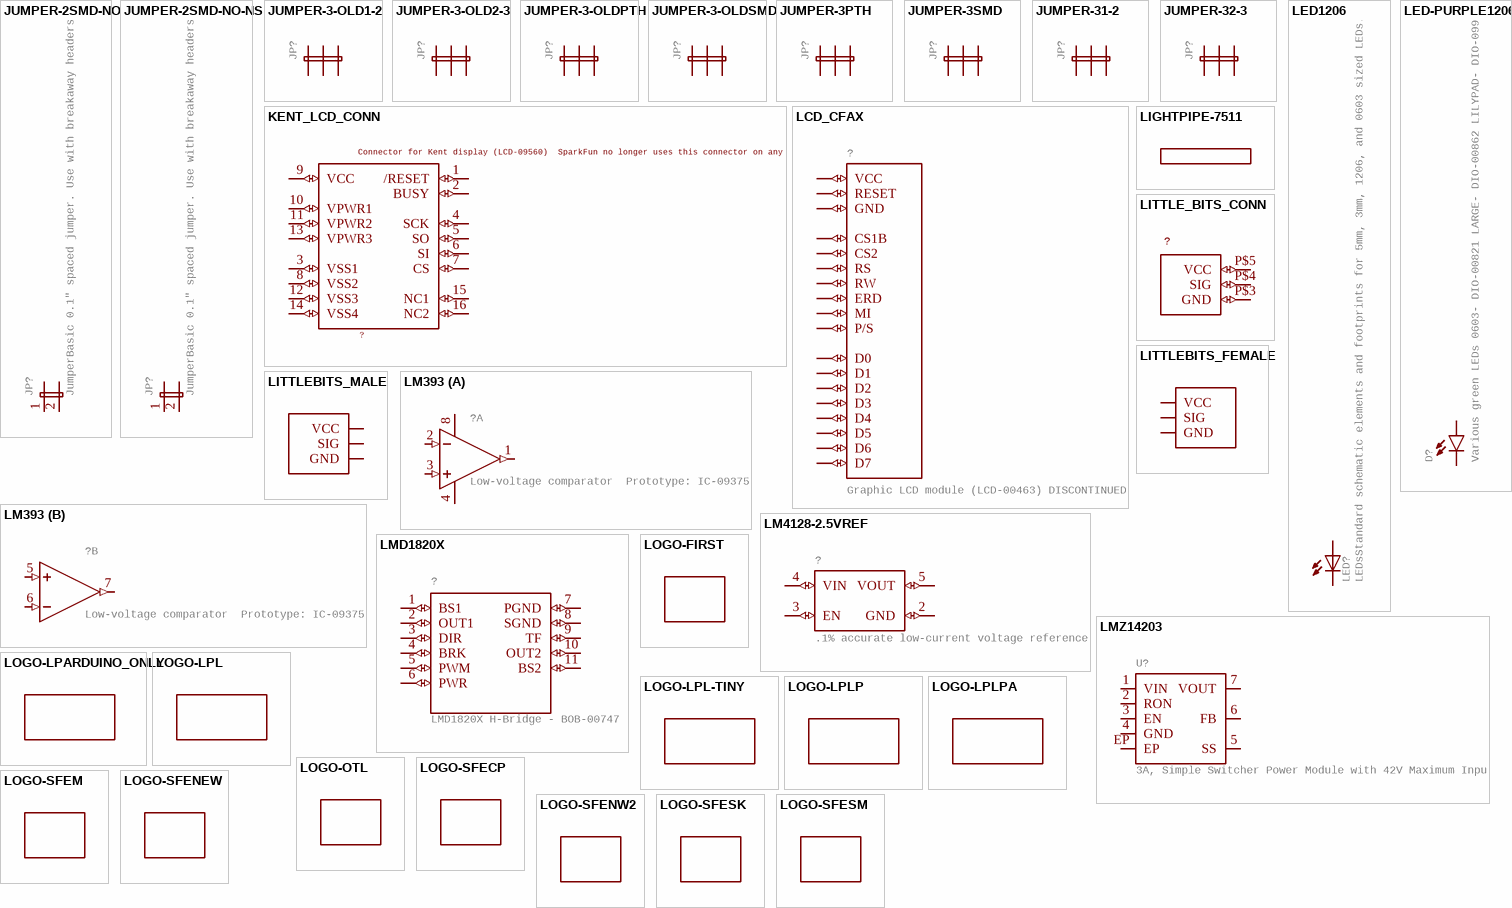
[diagram p14: symbols JUMPER-2SMD-NO to LOGO-SFESM]

## JUMPER-2SMD-NO
designator JP?, comment JumperBasic 0.1" spaced jumper. Use with breakaway headers.
GateName_1: A; SymbolName_1: JUMPER-2; DeviceName: SMD-NO; LibraryName: SparkFun-Retired; DeviceSetName: JUMPER-2; Package: SJ_2S-NO
footprint SJ_2S-NO
pins: 1, 2

## JUMPER-2SMD-NO-NS
designator JP?, comment JumperBasic 0.1" spaced jumper. Use with breakaway headers.
GateName_1: A; SymbolName_1: JUMPER-2; DeviceName: SMD-NO-NS; LibraryName: SparkFun-Retired; DeviceSetName: JUMPER-2; Package: SJ_2S-NO-NS
footprint SJ_2S-NO-NS
pins: 1, 2

## JUMPER-3-OLD1-2
designator JP?
GateName_1: G$1; SymbolName_1: JUMPER-3; DeviceName: 1-2; DeviceSetName: JUMPER-3-OLD; LibraryName: SparkFun-Retired; Package: SJ_3_PASTE1&2
footprint SJ_3_PASTE1&2
pins: 1, 2, 3

## JUMPER-3-OLD2-3
designator JP?
GateName_1: G$1; SymbolName_1: JUMPER-3; DeviceName: 2-3; DeviceSetName: JUMPER-3-OLD; LibraryName: SparkFun-Retired; Package: SJ_3_PASTE2&3
footprint SJ_3_PASTE2&3
pins: 1, 2, 3

## JUMPER-3-OLDPTH
designator JP?
GateName_1: G$1; SymbolName_1: JUMPER-3; DeviceName: PTH; DeviceSetName: JUMPER-3-OLD; LibraryName: SparkFun-Retired; Package: 1X03
footprint 1X03
pins: 1, 2, 3

## JUMPER-3-OLDSMD
designator JP?
GateName_1: G$1; SymbolName_1: JUMPER-3; DeviceName: SMD; DeviceSetName: JUMPER-3-OLD; LibraryName: SparkFun-Retired; Package: SJ_3
footprint SJ_3
pins: 1, 2, 3

## JUMPER-3PTH
designator JP?
GateName_1: G$1; SymbolName_1: JUMPER-3; DeviceName: PTH; LibraryName: SparkFun-Retired; DeviceSetName: JUMPER-3; Package: 1X03
footprint 1X03
pins: 1, 2, 3

## JUMPER-3SMD
designator JP?
GateName_1: G$1; SymbolName_1: JUMPER-3; DeviceName: SMD; LibraryName: SparkFun-Retired; DeviceSetName: JUMPER-3; Package: SJ_3
footprint SJ_3
pins: 1, 2, 3

## JUMPER-31-2
designator JP?
GateName_1: G$1; SymbolName_1: JUMPER-3; DeviceName: 1-2; LibraryName: SparkFun-Retired; DeviceSetName: JUMPER-3; Package: SJ_3_PASTE1&2
footprint SJ_3_PASTE1&2
pins: 1, 2, 3

## JUMPER-32-3
designator JP?
GateName_1: G$1; SymbolName_1: JUMPER-3; DeviceName: 2-3; LibraryName: SparkFun-Retired; DeviceSetName: JUMPER-3; Package: SJ_3_PASTE2&3
footprint SJ_3_PASTE2&3
pins: 1, 2, 3

## KENT_LCD_CONN
designator ?, comment Connector for Kent display (LCD-09560)  SparkFun no longer uses this connector on any active designs, however 4Ucon still makes this connector as of 7/19/2016.  http://www.4uconnector.com/online/object/4udrawing/07612.pdf
GateName_1: G$1; SymbolName_1: KENT_LCD_CONN; LibraryName: SparkFun-Retired; DeviceSetName: KENT_LCD_CONN; Package: FFC_16
footprint FFC_16
pins: 1 /RESET (io), 2 BUSY (io), 3 VSS1 (io), 4 SCK (io), 5 SO (io), 6 SI (io), 7 CS (io), 8 VSS2 (io), 9 VCC (io), 10 VPWR1 (io), 11 VPWR2 (io), 12 VSS3 (io), 13 VPWR3 (io), 14 VSS4 (io), 15 NC1 (io), 16 NC2 (io)

## LCD_CFAX
designator ?, comment Graphic LCD module (LCD-00463) DISCONTINUED
SymbolName_1: LCD_CFAX; GateName_1: LCD; LibraryName: SparkFun-Retired; DeviceSetName: LCD_CFAX; Package: LCD_CFAX
footprint LCD_CFAX
pins: P$1 VCC (io), P$2 GND (io), P$3 CS1B (io), P$4 CS2 (io), P$5 RESET (io), P$6 RS (io), P$7 RW (io), P$8 ERD (io), P$9 D0 (io), P$10 D1 (io), P$11 D2 (io), P$12 D3 (io), P$13 D4 (io), P$14 D5 (io), P$15 D6 (io), P$16 D7 (io), P$17 MI (io), P$18 P/S (io)

## LED1206
designator LED?, comment LEDsStandard schematic elements and footprints for 5mm, 3mm, 1206, and 0603 sized LEDs. 5mm - Spark Fun Electronics SKU : Comp-SBL
GateName_1: G$1; SymbolName_1: LED-1; DeviceName: 1206; DeviceSetName: LED; LibraryName: SparkFun-Retired; Package: LED-1206
footprint LED-1206
pins: A, C

## LED-PURPLE1206
designator D?, comment Various green LEDs 0603- DIO-00821 LARGE- DIO-00862 LILYPAD- DIO-09910
GateName_1: G$1; SymbolName_1: LED-2; DeviceName: 1206; DeviceSetName: LED-PURPLE; PROD_ID: DIO-11140; LibraryName: SparkFun-Retired; Package: LED-1206
footprint LED-1206
pins: A, C

## LIGHTPIPE-7511
designator ?
GateName_1: G$1; SymbolName_1: LIGHTPIPE-7511; LibraryName: SparkFun-Retired; DeviceSetName: LIGHTPIPE-7511; Package: LIGHTPIPE-7511
footprint LIGHTPIPE-7511

## LITTLE_BITS_CONN
designator ?, comment Connector used in LittleBits  (value not drawn)
GateName_1: G$1; DeviceSetName: LITTLE_BITS_CONN; SymbolName_1: LITTLEBITS; LibraryName: SparkFun-Retired; Package: LITTLEBITS
footprint LITTLEBITS
pins: P$3 GND (io), P$4 SIG (io), P$5 VCC (io)

## LITTLEBITS_FEMALE
designator J?, comment Female end for LittleBits boards  (value not drawn)
GateName_1: G$1; SymbolName_1: LITTLEBITS_FEMALE; LibraryName: SparkFun-Retired; DeviceSetName: LITTLEBITS_FEMALE; Package: LITTLE_BITS_FEMALE
footprint LITTLE_BITS_FEMALE
pins: SIG (io), V+ VCC (io), V- GND (io)

## LITTLEBITS_MALE
designator ?, comment Male end for LittleBits boards  (value not drawn)
GateName_1: G$1; SymbolName_1: LITTLEBITS_MALE; LibraryName: SparkFun-Retired; DeviceSetName: LITTLEBITS_MALE; Package: LITTLE_BITS_MALE
footprint LITTLE_BITS_MALE
pins: SIG (io), V+ VCC (io), V- GND (io)

## LM393
designator ?, comment Low-voltage comparator  Prototype: IC-09375
GateName_1: G1; SymbolName_1: OP-AMP+-; GateName_2: G2; SymbolName_2: OP-AMP; DeviceSetName: LM393; LibraryName: SparkFun-Retired; Package: SO08
footprint SO08
part A pins: 1 OUT (out), 2 -IN (in), 3 +IN (in), 4 V- (power), 8 V+ (power)
part B pins: 5 +IN (in), 6 -IN (in), 7 OUT (out)

## LM4128-2.5VREF
designator ?, comment .1% accurate low-current voltage reference
GateName_1: G$1; SymbolName_1: LM4128-2.5VREF; LibraryName: SparkFun-Retired; DeviceSetName: LM4128-2.5VREF; Package: SOT23-5
footprint SOT23-5
pins: 2 GND (io), 3 EN (io), 4 VIN (io), 5 VOUT (io)

## LMD1820X
designator ?, comment LMD1820X H-Bridge - BOB-00747
GateName_1: G$1; SymbolName_1: LMD1820X; LibraryName: SparkFun-Retired; DeviceSetName: LMD1820X; Package: TO-220-11LEAD
footprint TO-220-11LEAD
pins: 1 BS1 (io), 2 OUT1 (io), 3 DIR (io), 4 BRK (io), 5 PWM (io), 6 PWR (io), 7 PGND (io), 8 SGND (io), 9 TF (io), 10 OUT2 (io), 11 BS2 (io)

## LMZ14203
designator U?, comment 3A, Simple Switcher Power Module with 42V Maximum Input
GateName_1: G$1; SymbolName_1: LMZ14203; LibraryName: SparkFun-Retired; DeviceSetName: LMZ14203; Package: TO-PMOD-7
footprint TO-PMOD-7
pins: 1 VIN (io), 2 RON (io), 3 EN (io), 4 GND (io), 5 SS (io), 6 FB (io), 7 VOUT (io), EP (io)

## LOGO-FIRST
designator LOGO?
GateName_1: G$1; SymbolName_1: FIRST; DeviceSetName: LOGO-FIRST; LibraryName: SparkFun-Retired; Package: FRIST_LOGO
footprint FRIST_LOGO

## LOGO-LPARDUINO_ONLY
designator ?
GateName_1: G$1; SymbolName_1: LOGO-LP; DeviceName: ARDUINO_ONLY; LibraryName: SparkFun-Retired; DeviceSetName: LOGO-LP; Package: LOGO-A
footprint LOGO-A

## LOGO-LPL
designator ?
GateName_1: G$1; SymbolName_1: LOGO-LP; DeviceName: L; LibraryName: SparkFun-Retired; DeviceSetName: LOGO-LP; Package: LOGO-L
footprint LOGO-L

## LOGO-LPL-TINY
designator ?
GateName_1: G$1; SymbolName_1: LOGO-LP; DeviceName: L-TINY; LibraryName: SparkFun-Retired; DeviceSetName: LOGO-LP; Package: LOGO-L-TINY
footprint LOGO-L-TINY

## LOGO-LPLP
designator ?
GateName_1: G$1; SymbolName_1: LOGO-LP; DeviceName: LP; LibraryName: SparkFun-Retired; DeviceSetName: LOGO-LP; Package: LOGO-LILYPAD
footprint LOGO-LILYPAD

## LOGO-LPLPA
designator ?
GateName_1: G$1; SymbolName_1: LOGO-LP; DeviceName: LPA; LibraryName: SparkFun-Retired; DeviceSetName: LOGO-LP; Package: LOGO-LPA
footprint LOGO-LPA

## LOGO-OTL
designator LOGO?
GateName_1: G$1; SymbolName_1: OVERTONE_LOGO; DeviceSetName: LOGO-OTL; LibraryName: SparkFun-Retired; Package: OVERTONE_LOGO
footprint OVERTONE_LOGO

## LOGO-SFECP
designator LOGO?, comment Spark Fun Electronics PCB LogoThis is the standard Spark Fun Electronics PCB logo.  (value not drawn)
GateName_1: G$1; SymbolName_1: LOGO1; DeviceName: CP; DeviceSetName: LOGO-SFE; LibraryName: SparkFun-Retired; Package: SFE-LOGO-FLAME-COPPER
footprint SFE-LOGO-FLAME-COPPER

## LOGO-SFEM
designator LOGO?, comment Spark Fun Electronics PCB LogoThis is the standard Spark Fun Electronics PCB logo.  (value not drawn)
GateName_1: G$1; SymbolName_1: LOGO1; DeviceName: M; DeviceSetName: LOGO-SFE; LibraryName: SparkFun-Retired; Package: SFE-LOGO
footprint SFE-LOGO

## LOGO-SFENEW
designator LOGO?, comment Spark Fun Electronics PCB LogoThis is the standard Spark Fun Electronics PCB logo.  (value not drawn)
GateName_1: G$1; SymbolName_1: LOGO1; DeviceName: NEW; DeviceSetName: LOGO-SFE; LibraryName: SparkFun-Retired; Package: SFE-NEW-WEBLOGO
footprint SFE-NEW-WEBLOGO

## LOGO-SFENW2
designator LOGO?, comment Spark Fun Electronics PCB LogoThis is the standard Spark Fun Electronics PCB logo.  (value not drawn)
GateName_1: G$1; SymbolName_1: LOGO1; DeviceName: NW2; DeviceSetName: LOGO-SFE; LibraryName: SparkFun-Retired; Package: SFE-NEW-WEB
footprint SFE-NEW-WEB

## LOGO-SFESK
designator LOGO?, comment Spark Fun Electronics PCB LogoThis is the standard Spark Fun Electronics PCB logo.  (value not drawn)
GateName_1: G$1; SymbolName_1: LOGO1; DeviceName: SK; DeviceSetName: LOGO-SFE; LibraryName: SparkFun-Retired; Package: SFE-LOGO-FLAME
footprint SFE-LOGO-FLAME

## LOGO-SFESM
designator LOGO?, comment Spark Fun Electronics PCB LogoThis is the standard Spark Fun Electronics PCB logo.  (value not drawn)
GateName_1: G$1; SymbolName_1: LOGO1; DeviceName: SM; DeviceSetName: LOGO-SFE; LibraryName: SparkFun-Retired; Package: SFE-NEW-WEB-SOLDERMASK
footprint SFE-NEW-WEB-SOLDERMASK

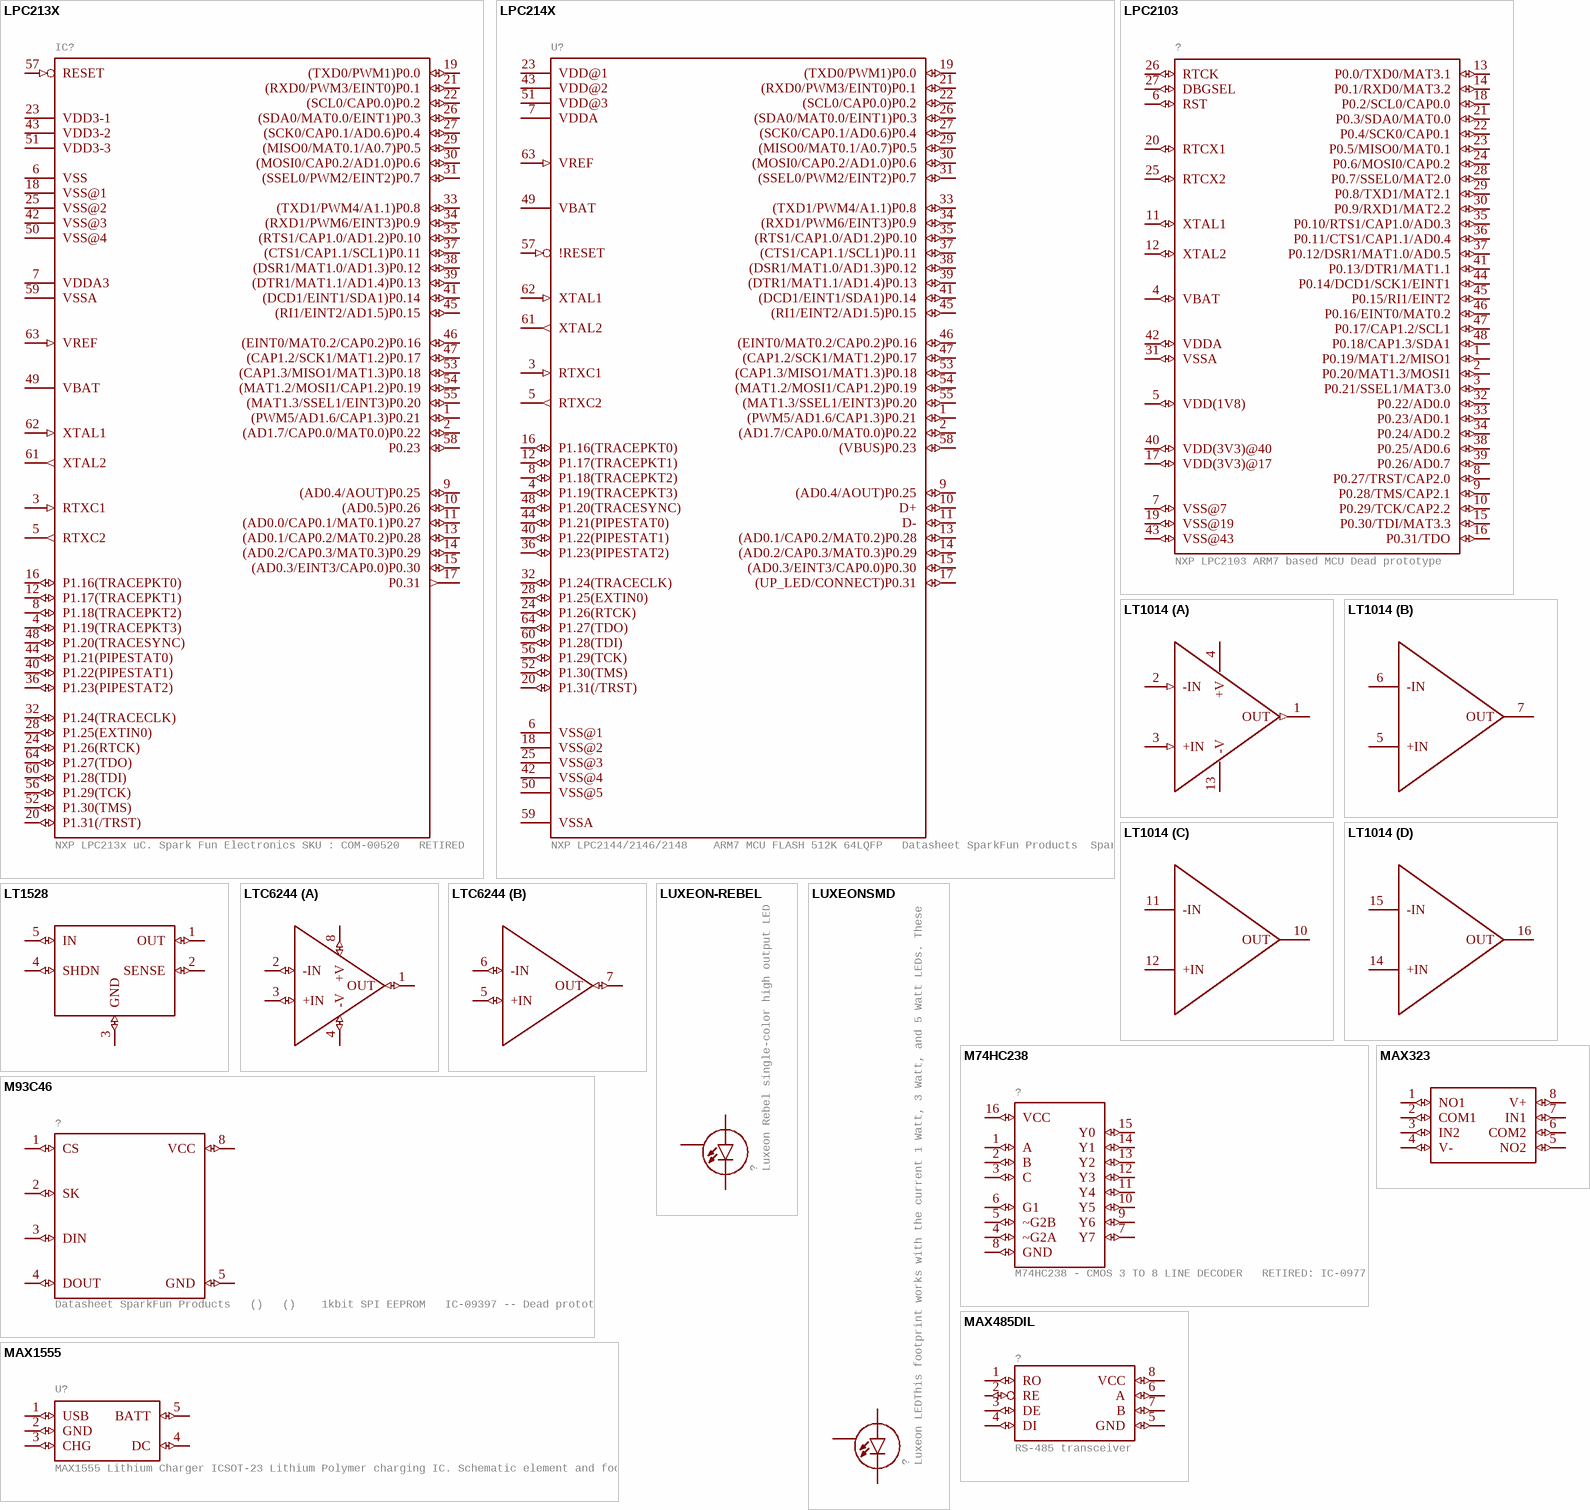
[diagram p15: symbols LPC213X to MAX1555]

## LPC213X
designator IC?, comment NXP LPC213x uC. Spark Fun Electronics SKU : COM-00520   RETIRED
GateName_1: G$1; SymbolName_1: LPC213X; LibraryName: SparkFun-Retired; DeviceSetName: LPC213X; Package: SQFP-S-10X10-64_MCU
footprint SQFP-S-10X10-64_MCU
pins: 1 (PWM5/AD1.6/CAP1.3)P0.21 (io), 2 (AD1.7/CAP0.0/MAT0.0)P0.22 (io), 3 RTXC1 (in), 4 P1.19(TRACEPKT3) (io), 5 RTXC2 (out), 6 VSS (power), 7 VDDA3 (power), 8 P1.18(TRACEPKT2) (io), 9 (AD0.4/AOUT)P0.25 (io), 10 (AD0.5)P0.26 (io), 11 (AD0.0/CAP0.1/MAT0.1)P0.27 (io), 12 P1.17(TRACEPKT1) (io), 13 (AD0.1/CAP0.2/MAT0.2)P0.28 (io), 14 (AD0.2/CAP0.3/MAT0.3)P0.29 (io), 15 (AD0.3/EINT3/CAP0.0)P0.30 (io), 16 P1.16(TRACEPKT0) (io), 17 P0.31 (out), 18 VSS@1 (power), 19 (TXD0/PWM1)P0.0 (io), 20 P1.31(/TRST) (io), 21 (RXD0/PWM3/EINT0)P0.1 (io), 22 (SCL0/CAP0.0)P0.2 (io), 23 VDD3-1 (power), 24 P1.26(RTCK) (io), 25 VSS@2 (power), 26 (SDA0/MAT0.0/EINT1)P0.3 (io), 27 (SCK0/CAP0.1/AD0.6)P0.4 (io), 28 P1.25(EXTIN0) (io), 29 (MISO0/MAT0.1/A0.7)P0.5 (io), 30 (MOSI0/CAP0.2/AD1.0)P0.6 (io), 31 (SSEL0/PWM2/EINT2)P0.7 (io), 32 P1.24(TRACECLK) (io), 33 (TXD1/PWM4/A1.1)P0.8 (io), 34 (RXD1/PWM6/EINT3)P0.9 (io), 35 (RTS1/CAP1.0/AD1.2)P0.10 (io), 36 P1.23(PIPESTAT2) (io), 37 (CTS1/CAP1.1/SCL1)P0.11 (io), 38 (DSR1/MAT1.0/AD1.3)P0.12 (io), 39 (DTR1/MAT1.1/AD1.4)P0.13 (io), 40 P1.22(PIPESTAT1) (io), 41 (DCD1/EINT1/SDA1)P0.14 (io), 42 VSS@3 (power), 43 VDD3-2 (power), 44 P1.21(PIPESTAT0) (io), 45 (RI1/EINT2/AD1.5)P0.15 (io), 46 (EINT0/MAT0.2/CAP0.2)P0.16 (io), 47 (CAP1.2/SCK1/MAT1.2)P0.17 (io), 48 P1.20(TRACESYNC) (io), 49 VBAT (power), 50 VSS@4 (power), 51 VDD3-3 (power), 52 P1.30(TMS) (io), 53 (CAP1.3/MISO1/MAT1.3)P0.18 (io), 54 (MAT1.2/MOSI1/CAP1.2)P0.19 (io), 55 (MAT1.3/SSEL1/EINT3)P0.20 (io), 56 P1.29(TCK) (io), 57 RESET (in), 58 P0.23 (io), 59 VSSA (power), 60 P1.28(TDI) (io), 61 XTAL2 (out), 62 XTAL1 (in), 63 VREF (in), 64 P1.27(TDO) (io)

## LPC214X
designator U?, comment NXP LPC2144/2146/2148    ARM7 MCU FLASH 512K 64LQFP   Datasheet SparkFun Products  SparkFun Logomatic v2 - Serial SD Datalogger (FAT32) (WIG-12772)
GateName_1: G$1; SymbolName_1: LPC213X-1; DeviceSetName: LPC214X; PROD_ID: IC-07934; LibraryName: SparkFun-Retired; Package: LQFP-10X10-64_MCU
footprint LQFP-10X10-64_MCU
pins: 1 (PWM5/AD1.6/CAP1.3)P0.21 (io), 2 (AD1.7/CAP0.0/MAT0.0)P0.22 (io), 3 RTXC1 (in), 4 P1.19(TRACEPKT3) (io), 5 RTXC2 (out), 6 VSS@1 (power), 7 VDDA (power), 8 P1.18(TRACEPKT2) (io), 9 (AD0.4/AOUT)P0.25 (io), 10 D+ (io), 11 D- (io), 12 P1.17(TRACEPKT1) (io), 13 (AD0.1/CAP0.2/MAT0.2)P0.28 (io), 14 (AD0.2/CAP0.3/MAT0.3)P0.29 (io), 15 (AD0.3/EINT3/CAP0.0)P0.30 (io), 16 P1.16(TRACEPKT0) (io), 17 (UP_LED/CONNECT)P0.31 (io), 18 VSS@2 (power), 19 (TXD0/PWM1)P0.0 (io), 20 P1.31(/TRST) (io), 21 (RXD0/PWM3/EINT0)P0.1 (io), 22 (SCL0/CAP0.0)P0.2 (io), 23 VDD@1 (power), 24 P1.26(RTCK) (io), 25 VSS@3 (power), 26 (SDA0/MAT0.0/EINT1)P0.3 (io), 27 (SCK0/CAP0.1/AD0.6)P0.4 (io), 28 P1.25(EXTIN0) (io), 29 (MISO0/MAT0.1/A0.7)P0.5 (io), 30 (MOSI0/CAP0.2/AD1.0)P0.6 (io), 31 (SSEL0/PWM2/EINT2)P0.7 (io), 32 P1.24(TRACECLK) (io), 33 (TXD1/PWM4/A1.1)P0.8 (io), 34 (RXD1/PWM6/EINT3)P0.9 (io), 35 (RTS1/CAP1.0/AD1.2)P0.10 (io), 36 P1.23(PIPESTAT2) (io), 37 (CTS1/CAP1.1/SCL1)P0.11 (io), 38 (DSR1/MAT1.0/AD1.3)P0.12 (io), 39 (DTR1/MAT1.1/AD1.4)P0.13 (io), 40 P1.22(PIPESTAT1) (io), 41 (DCD1/EINT1/SDA1)P0.14 (io), 42 VSS@4 (power), 43 VDD@2 (power), 44 P1.21(PIPESTAT0) (io), 45 (RI1/EINT2/AD1.5)P0.15 (io), 46 (EINT0/MAT0.2/CAP0.2)P0.16 (io), 47 (CAP1.2/SCK1/MAT1.2)P0.17 (io), 48 P1.20(TRACESYNC) (io), 49 VBAT (power), 50 VSS@5 (power), 51 VDD@3 (power), 52 P1.30(TMS) (io), 53 (CAP1.3/MISO1/MAT1.3)P0.18 (io), 54 (MAT1.2/MOSI1/CAP1.2)P0.19 (io), 55 (MAT1.3/SSEL1/EINT3)P0.20 (io), 56 P1.29(TCK) (io), 57 !RESET (in), 58 (VBUS)P0.23 (io), 59 VSSA (power), 60 P1.28(TDI) (io), 61 XTAL2 (out), 62 XTAL1 (in), 63 VREF (in), 64 P1.27(TDO) (io)

## LPC2103
designator ?, comment NXP LPC2103 ARM7 based MCU Dead prototype
GateName_1: G$1; PROD_ID: IC-09387; SymbolName_1: LPC2103; LibraryName: SparkFun-Retired; DeviceSetName: LPC2103; Package: LQFP-48_MCU
footprint LQFP-48_MCU
pins: 1 P0.19/MAT1.2/MISO1 (io), 2 P0.20/MAT1.3/MOSI1 (io), 3 P0.21/SSEL1/MAT3.0 (io), 4 VBAT (io), 5 VDD(1V8) (io), 6 RST (io), 7 VSS@7 (io), 8 P0.27/TRST/CAP2.0 (io), 9 P0.28/TMS/CAP2.1 (io), 10 P0.29/TCK/CAP2.2 (io), 11 XTAL1 (io), 12 XTAL2 (io), 13 P0.0/TXD0/MAT3.1 (io), 14 P0.1/RXD0/MAT3.2 (io), 15 P0.30/TDI/MAT3.3 (io), 16 P0.31/TDO (io), 17 VDD(3V3)@17 (io), 18 P0.2/SCL0/CAP0.0 (io), 19 VSS@19 (io), 20 RTCX1 (io), 21 P0.3/SDA0/MAT0.0 (io), 22 P0.4/SCK0/CAP0.1 (io), 23 P0.5/MISO0/MAT0.1 (io), 24 P0.6/MOSI0/CAP0.2 (io), 25 RTCX2 (io), 26 RTCK (io), 27 DBGSEL (io), 28 P0.7/SSEL0/MAT2.0 (io), 29 P0.8/TXD1/MAT2.1 (io), 30 P0.9/RXD1/MAT2.2 (io), 31 VSSA (io), 32 P0.22/AD0.0 (io), 33 P0.23/AD0.1 (io), 34 P0.24/AD0.2 (io), 35 P0.10/RTS1/CAP1.0/AD0.3 (io), 36 P0.11/CTS1/CAP1.1/AD0.4 (io), 37 P0.12/DSR1/MAT1.0/AD0.5 (io), 38 P0.25/AD0.6 (io), 39 P0.26/AD0.7 (io), 40 VDD(3V3)@40 (io), 41 P0.13/DTR1/MAT1.1 (io), 42 VDDA (io), 43 VSS@43 (io), 44 P0.14/DCD1/SCK1/EINT1 (io), 45 P0.15/RI1/EINT2 (io), 46 P0.16/EINT0/MAT0.2 (io), 47 P0.17/CAP1.2/SCL1 (io), 48 P0.18/CAP1.3/SDA1 (io)

## LT1014
designator ?, comment Precision quad op-amp. I/O range includes negative rail.  Dead Prototype: IC-08606 TODO: fix symbol  (value not drawn)
GateName_1: G1; SymbolName_1: LT1014; GateName_2: G2; SymbolName_2: LT1014_2; GateName_3: G3; GateName_4: G4; SymbolName_3: LT1014_2; SymbolName_4: LT1014_2; LibraryName: SparkFun-Retired; DeviceSetName: LT1014; Package: SO16L
footprint SO16L
part A pins: 1 OUT (out), 2 -IN (in), 3 +IN (in), 4 +V (power), 13 -V (power)
part B pins: 5 +IN (power), 6 -IN (power), 7 OUT (power)
part C pins: 10 OUT (power), 11 -IN (power), 12 +IN (power)
part D pins: 14 +IN (power), 15 -IN (power), 16 OUT (power)

## LT1528
designator ?, comment High current voltage regulator commonly used with GM862 cellular module. Spark Fun Electronics SKU : COM-00311. Footprint may need to have the large paste aperature reduced.  (value not drawn)
GateName_1: G$1; SymbolName_1: LT1528; LibraryName: SparkFun-Retired; DeviceSetName: LT1528; Package: Q5-DD
footprint Q5-DD
pins: 1 OUT (io), 2 SENSE (io), 3 GND (io), 4 SHDN (io), 5 IN (io)

## LTC6244
designator ?, comment Low-noise, high-speed rail-to-rail CMOS op-amp  Not in catalog  (value not drawn)
GateName_1: G1; SymbolName_1: LTC6244; GateName_2: G2; SymbolName_2: LTC6244_2; LibraryName: SparkFun-Retired; DeviceSetName: LTC6244; Package: MSOP8
footprint MSOP8
part A pins: 1 OUT (io), 2 -IN (io), 3 +IN (io), 4 -V (io), 8 +V (io)
part B pins: 5 +IN (io), 6 -IN (io), 7 OUT (io)

## LUXEON-REBEL
designator ?, comment Luxeon Rebel single-color high output LED
GateName_1: G$1; DeviceSetName: LUXEON-REBEL; SymbolName_1: LUXEON; LibraryName: SparkFun-Retired; Package: LUXEON-REBEL
footprint LUXEON-REBEL
pins: ANODE A, CATHODE C, P$3 S (io)

## LUXEONSMD
designator ?, comment Luxeon LEDThis footprint works with the current 1 Watt, 3 Watt, and 5 Watt LEDs. These blindingly bright LEDs generate a lot of heat so the footprint has a large pad under the LED for thermal transfer. Schematic and footprint are proven. Spark Fun Electronics SKU : COM-00603
GateName_1: G$1; DeviceName: SMD; SymbolName_1: LUXEON; LibraryName: SparkFun-Retired; DeviceSetName: LUXEON; Package: LUXEON
footprint LUXEON
pins: A, C, S (io)

## M74HC238
designator ?, comment M74HC238 - CMOS 3 TO 8 LINE DECODER   RETIRED: IC-09771
GateName_1: G$1; SymbolName_1: M74HC238; LibraryName: SparkFun-Retired; DeviceSetName: M74HC238; Package: DIP16
footprint DIP16
pins: 1 A (io), 2 B (io), 3 C (io), 4 ~G2A (io), 5 ~G2B (io), 6 G1 (io), 7 Y7 (io), 8 GND (io), 9 Y6 (io), 10 Y5 (io), 11 Y4 (io), 12 Y3 (io), 13 Y2 (io), 14 Y1 (io), 15 Y0 (io), 16 VCC (io)

## M93C46
designator ?, comment Datasheet SparkFun Products   ()   ()    1kbit SPI EEPROM   IC-09397 -- Dead prototype
GateName_1: G$1; SymbolName_1: M93C46; LibraryName: SparkFun-Retired; DeviceSetName: M93C46; Package: SO08
footprint SO08
pins: 1 CS (io), 2 SK (io), 3 DIN (io), 4 DOUT (io), 5 GND (io), 8 VCC (io)

## MAX323
designator U?, comment RETIRED Dual low-voltage SPST analog switch  (value not drawn)
GateName_1: G$1; SymbolName_1: MAX323; PROD_ID: IC-08171; LibraryName: SparkFun-Retired; DeviceSetName: MAX323; Package: SO08
footprint SO08
pins: 1 NO1 (io), 2 COM1 (io), 3 IN2 (io), 4 V- (io), 5 NO2 (io), 6 COM2 (io), 7 IN1 (io), 8 V+ (io)

## MAX485DIL
designator ?, comment RS-485 transceiver
GateName_1: G$1; SymbolName_1: MAX485; DeviceName: DIL; LibraryName: SparkFun-Retired; DeviceSetName: MAX485; Package: DIL08
footprint DIL08
pins: 1 RO (io), 2 RE (io), 3 DE (io), 4 DI (io), 5 GND (io), 6 A (io), 7 B (io), 8 VCC (io)

## MAX1555
designator U?, comment MAX1555 Lithium Charger ICSOT-23 Lithium Polymer charging IC. Schematic element and footprint proven. Spark Fun Electronics SKU : COM-00674
GateName_1: G$1; SymbolName_1: MAX1555; LibraryName: SparkFun-Retired; DeviceSetName: MAX1555; Package: SOT23-5
footprint SOT23-5
pins: 1 USB (io), 2 GND (io), 3 CHG (io), 4 DC (io), 5 BATT (io)

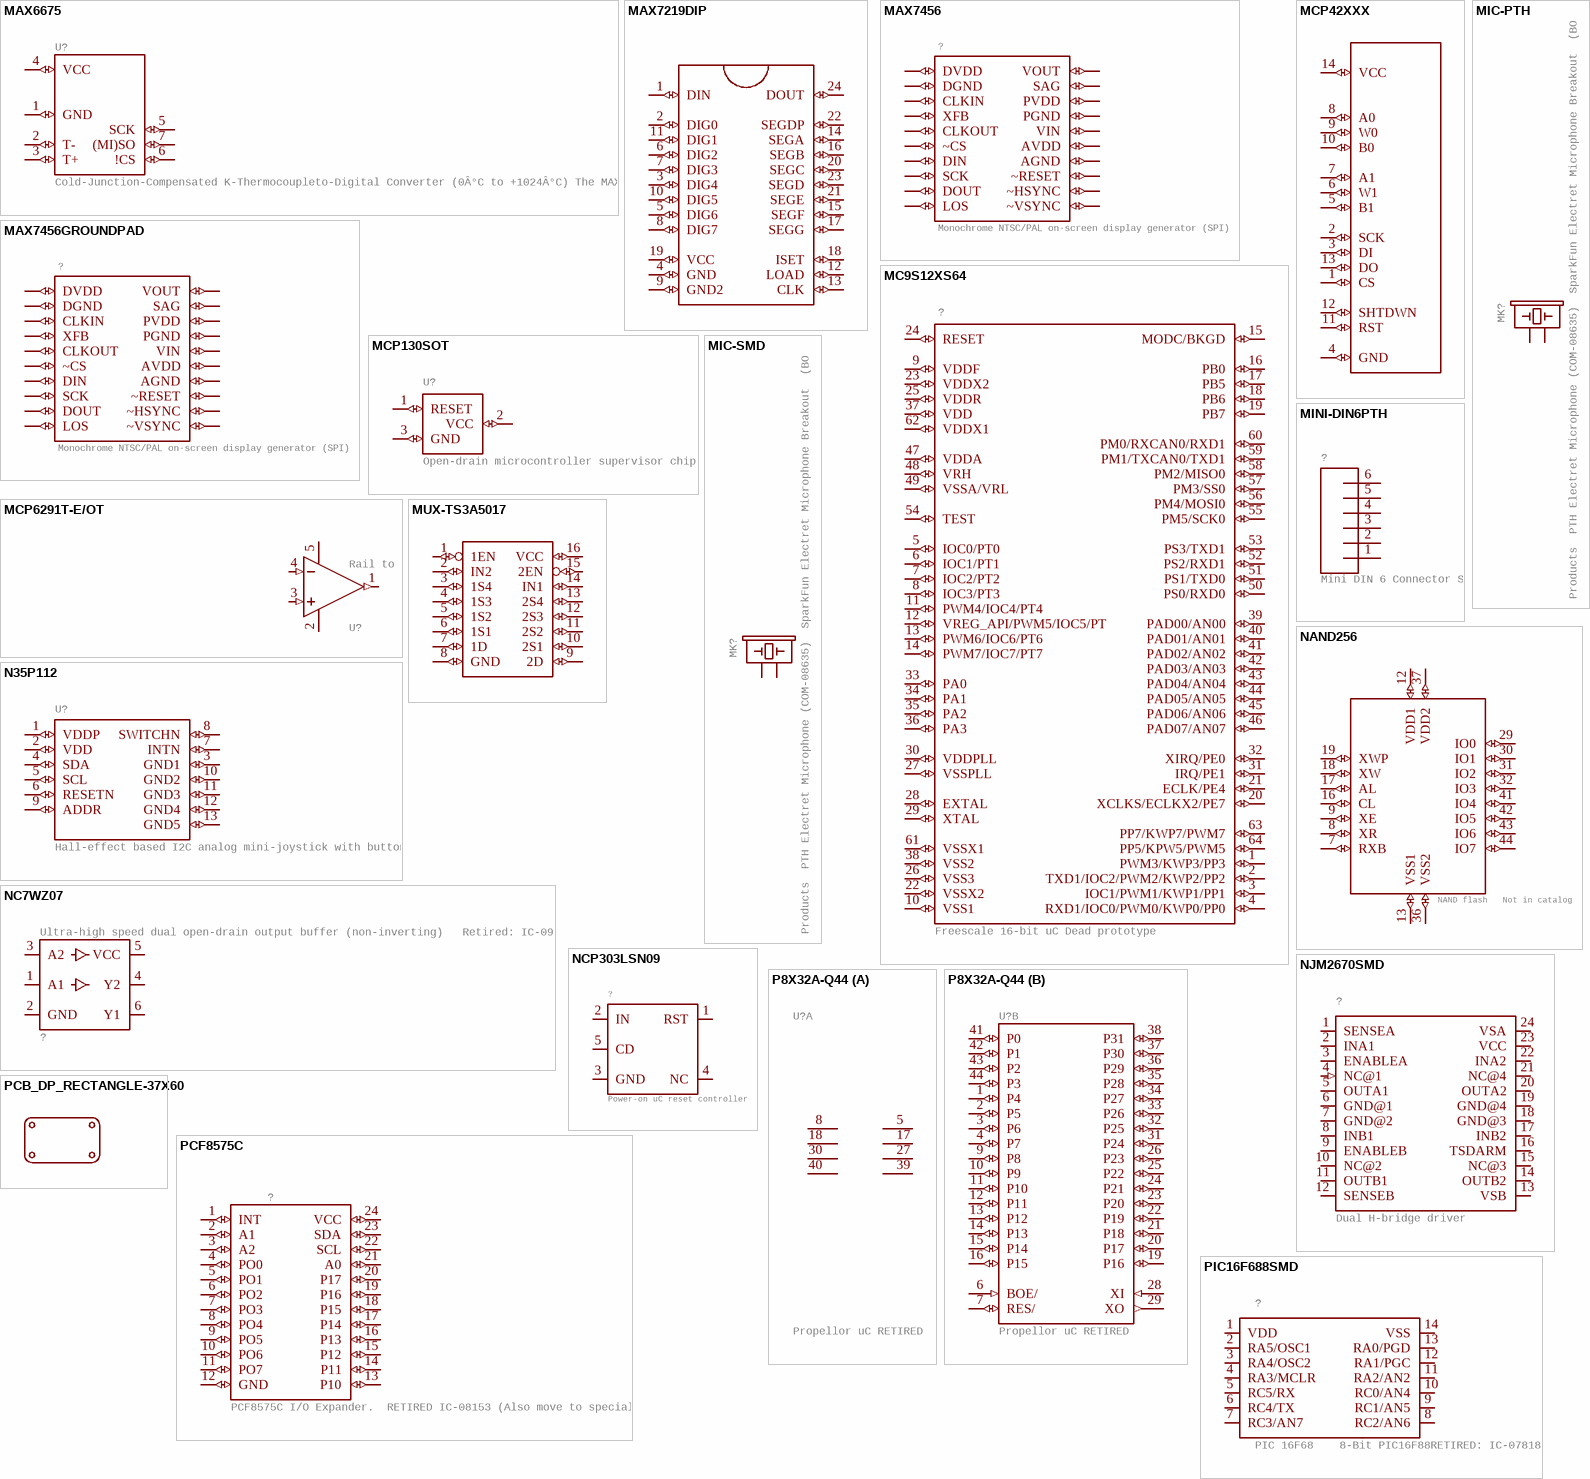
[diagram p16: symbols MAX6675 to PIC16F688SMD]

## MAX6675
designator U?, comment Cold-Junction-Compensated K-Thermocoupleto-Digital Converter (0Â°C to +1024Â°C) The MAX6675 performs cold-junction compensation and digitizes the signal from a type-K thermocouple. The data is output in a 12-bit resolution, SPIâ„¢-compatible, read-only format. This converter resolves temperatures to 0.25Â°C, allows readings as high as +1024Â°C, and exhibits thermocouple accuracy of 8LSBs for temperatures ranging from 0Â°C to +700Â°C.  Dead Prototype: IC-12512
GateName_1: G$1; SymbolName_1: MAX6675; LibraryName: SparkFun-Retired; DeviceSetName: MAX6675; Package: SOIC8; PROD_ID: IC-12512
footprint SOIC8
pins: 1 GND (io), 2 T- (io), 3 T+ (io), 4 VCC (io), 5 SCK (io), 6 !CS (io), 7 (MI)SO (io)

## MAX7219DIP
designator ?, comment 8-digit, 8-segment LED display driver, serial input  (value not drawn)
GateName_1: G$1; SymbolName_1: MAX7219; DeviceName: DIP; LibraryName: SparkFun-Retired; DeviceSetName: MAX7219; Package: DIL24
footprint DIL24
pins: 1 DIN (io), 2 DIG0 (io), 3 DIG4 (io), 4 GND (io), 5 DIG6 (io), 6 DIG2 (io), 7 DIG3 (io), 8 DIG7 (io), 9 GND2 (io), 10 DIG5 (io), 11 DIG1 (io), 12 LOAD (io), 13 CLK (io), 14 SEGA (io), 15 SEGF (io), 16 SEGB (io), 17 SEGG (io), 18 ISET (io), 19 VCC (io), 20 SEGC (io), 21 SEGE (io), 22 SEGDP (io), 23 SEGD (io), 24 DOUT (io)

## MAX7456
designator ?, comment Monochrome NTSC/PAL on-screen display generator (SPI)
GateName_1: G$1; SymbolName_1: MAX7456; LibraryName: SparkFun-Retired; DeviceSetName: MAX7456; Package: TSSOP28
footprint TSSOP28
pins: 3 DVDD (io), 4 DGND (io), 5 CLKIN (io), 6 XFB (io), 7 CLKOUT (io), 8 ~CS (io), 9 DIN (io), 10 SCK (io), 11 DOUT (io), 12 LOS (io), 17 ~VSYNC (io), 18 ~HSYNC (io), 19 ~RESET (io), 20 AGND (io), 21 AVDD (io), 22 VIN (io), 23 PGND (io), 24 PVDD (io), 25 SAG (io), 26 VOUT (io)

## MAX7456GROUNDPAD
designator ?, comment Monochrome NTSC/PAL on-screen display generator (SPI)
GateName_1: G$1; SymbolName_1: MAX7456; DeviceName: GROUNDPAD; LibraryName: SparkFun-Retired; DeviceSetName: MAX7456; Package: TSSOP28-GROUNDPAD
footprint TSSOP28-GROUNDPAD
pins: 3 DVDD (io), 4 DGND (io), 5 CLKIN (io), 6 XFB (io), 7 CLKOUT (io), 8 ~CS (io), 9 DIN (io), 10 SCK (io), 11 DOUT (io), 12 LOS (io), 17 ~VSYNC (io), 18 ~HSYNC (io), 19 ~RESET (io), 20 AGND (io), 21 AVDD (io), 22 VIN (io), 23 PGND (io), 24 PVDD (io), 25 SAG (io), 26 VOUT (io)

## MC9S12XS64
designator ?, comment Freescale 16-bit uC Dead prototype
GateName_1: G$1; SymbolName_1: MC9S12XS64; PROD_ID: IC-09432; LibraryName: SparkFun-Retired; DeviceSetName: MC9S12XS64; Package: SQFP-S-10X10-64_MCU
footprint SQFP-S-10X10-64_MCU
pins: 1 PWM3/KWP3/PP3 (io), 2 TXD1/IOC2/PWM2/KWP2/PP2 (io), 3 IOC1/PWM1/KWP1/PP1 (io), 4 RXD1/IOC0/PWM0/KWP0/PP0 (io), 5 IOC0/PT0 (io), 6 IOC1/PT1 (io), 7 IOC2/PT2 (io), 8 IOC3/PT3 (io), 9 VDDF (io), 10 VSS1 (io), 11 PWM4/IOC4/PT4 (io), 12 VREG_API/PWM5/IOC5/PT (io), 13 PWM6/IOC6/PT6 (io), 14 PWM7/IOC7/PT7 (io), 15 MODC/BKGD (io), 16 PB0 (io), 17 PB5 (io), 18 PB6 (io), 19 PB7 (io), 20 XCLKS/ECLKX2/PE7 (io), 21 ECLK/PE4 (io), 22 VSSX2 (io), 23 VDDX2 (io), 24 RESET (io), 25 VDDR (io), 26 VSS3 (io), 27 VSSPLL (io), 28 EXTAL (io), 29 XTAL (io), 30 VDDPLL (io), 31 IRQ/PE1 (io), 32 XIRQ/PE0 (io), 33 PA0 (io), 34 PA1 (io), 35 PA2 (io), 36 PA3 (io), 37 VDD (io), 38 VSS2 (io), 39 PAD00/AN00 (io), 40 PAD01/AN01 (io), 41 PAD02/AN02 (io), 42 PAD03/AN03 (io), 43 PAD04/AN04 (io), 44 PAD05/AN05 (io), 45 PAD06/AN06 (io), 46 PAD07/AN07 (io), 47 VDDA (io), 48 VRH (io), 49 VSSA/VRL (io), 50 PS0/RXD0 (io), 51 PS1/TXD0 (io), 52 PS2/RXD1 (io), 53 PS3/TXD1 (io), 54 TEST (io), 55 PM5/SCK0 (io), 56 PM4/MOSI0 (io), 57 PM3/SS0 (io), 58 PM2/MISO0 (io), 59 PM1/TXCAN0/TXD1 (io), 60 PM0/RXCAN0/RXD1 (io), 61 VSSX1 (io), 62 VDDX1 (io), 63 PP7/KWP7/PWM7 (io), 64 PP5/KPW5/PWM5 (io)